# Altium schematic symbol library SCH Library.SCHLIB: 489 symbols (part 1 of 2)
Pins are listed as number, name and electrical type; pins without a type are passive.

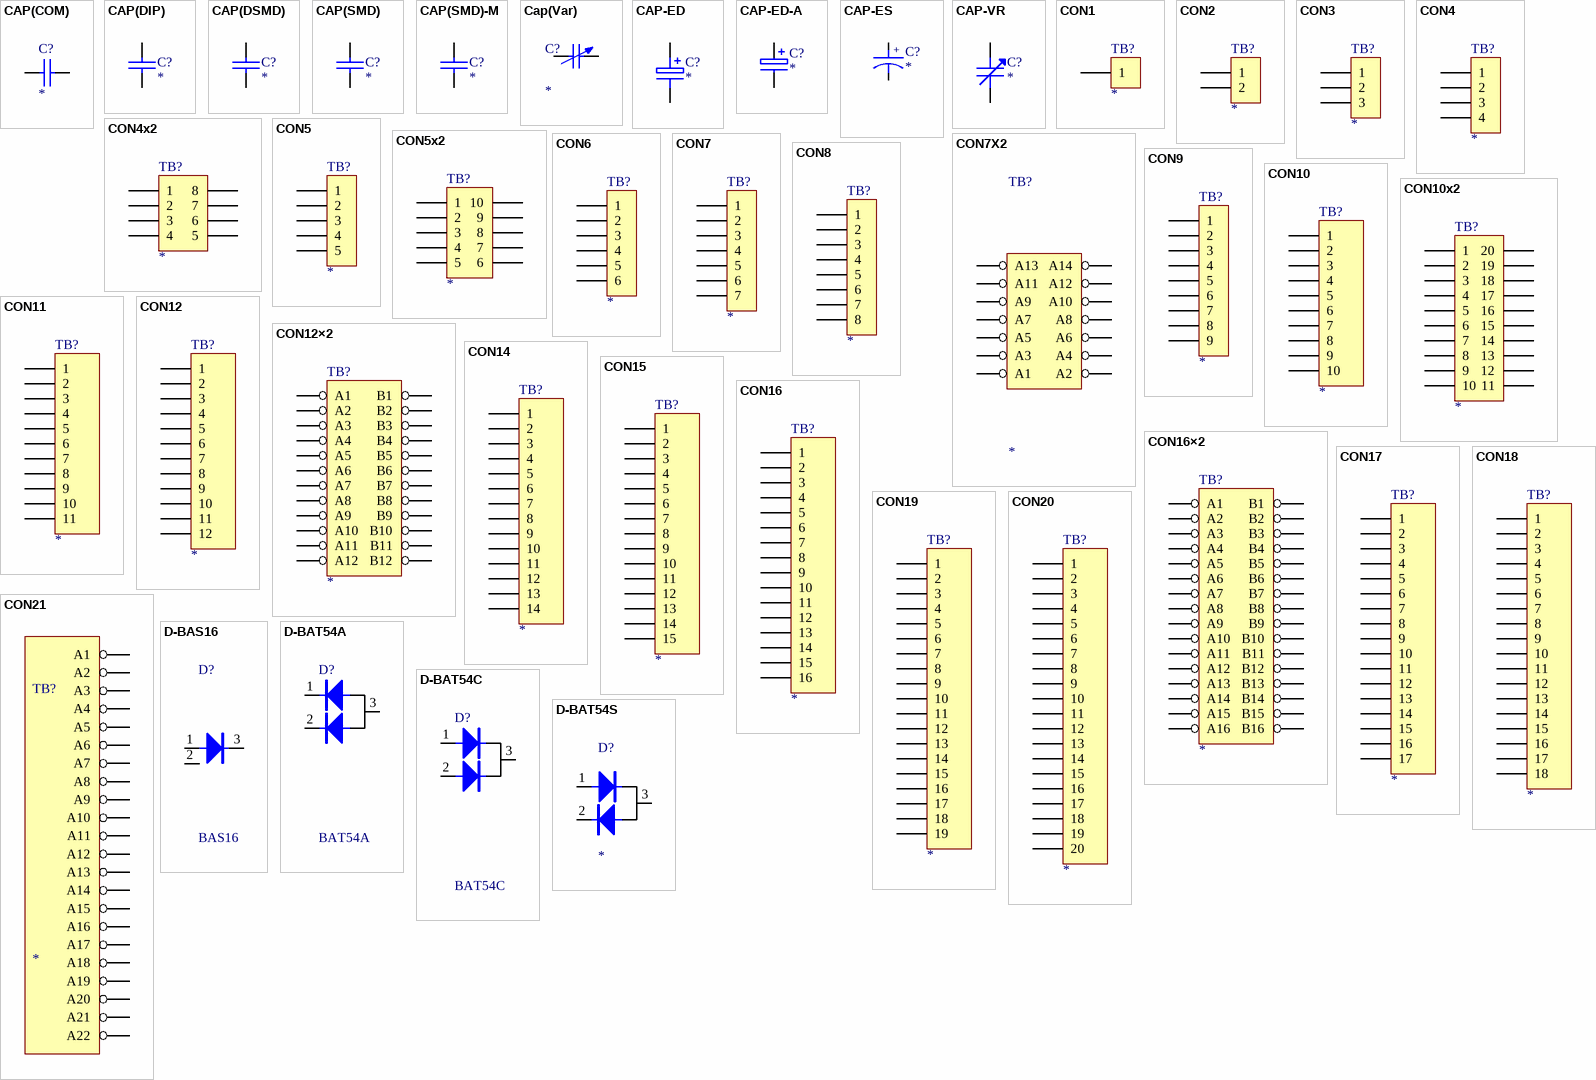
[diagram p0: symbols CAP(COM) to D-BAT54S]

## CAP(COM)
designator C?
普通电容
pins: 1, 2

## CAP(DIP)
designator C?
直插电容
footprint Model Name (Footprint not found)
pins: 1, 2

## CAP(DSMD)
designator C?
贴片钽电容
footprint C-3216-18-A
footprint C-3528-21-B
footprint C-6032-28-C
footprint C-7343-31-D
footprint C-7343-43-E
footprint C-7361-38-V
pins: 1, 2

## CAP(SMD)
designator C?
贴片电容
footprint C-0805
footprint C-1206
footprint C-1808
footprint C-1812
footprint C-2220
footprint C-0603
footprint C-0402
pins: 1, 2

## CAP(SMD)-M
designator C?
贴片电容
footprint C-0805
footprint C-1206
footprint C-1808
footprint C-1812
footprint C-2220
footprint C-0603
footprint C-0402
footprint C-1210
pins: 1, 2

## Cap(Var)
designator C?
可变电容器; Published: 24-Mar-1999; LatestRevisionDate: 17-Jul-2002; LatestRevisionNote: Re-released for DXP Platform.; PackageReference: C1210; Publisher: Altium Limited
footprint C1210 (Chip Capacitor; Body 3.2 x 2.5 mm (LxW typ))
signal-integrity model Cap Var
pins: 1, 2

## CAP-ED
designator C?
电解电容
pins: 1, 2

## CAP-ED-A
designator C?
电解电容
pins: 1, 2

## CAP-ES
designator C?
电解电容
pins: 1, 2
text: +

## CAP-VR
designator C?
可调电容
pins: 1, 2

## CON1
designator TB?
连接器
pins: 1

## CON2
designator TB?
连接器
pins: 1, 2

## CON3
designator TB?
连接器
pins: 1, 2, 3

## CON4
designator TB?
连接器
pins: 1, 2, 3, 4

## CON4x2
designator TB?
连接器
pins: 1, 2, 3, 4, 5, 6, 7, 8

## CON5
designator TB?
连接器
pins: 1, 2, 3, 4, 5

## CON5x2
designator TB?
连接器
pins: 1, 2, 3, 4, 5, 6, 7, 8, 9, 10

## CON6
designator TB?
连接器
pins: 1, 2, 3, 4, 5, 6

## CON7
designator TB?
连接器
pins: 1, 2, 3, 4, 5, 6, 7

## CON7X2
designator TB?
连接器
pins: A1, A2, A3, A4, A5, A6, A7, A8, A9, A10, A11, A12, A13, A14

## CON8
designator TB?
连接器
pins: 1, 2, 3, 4, 5, 6, 7, 8

## CON9
designator TB?
连接器
pins: 1, 2, 3, 4, 5, 6, 7, 8, 9

## CON10
designator TB?
连接器
pins: 1, 2, 3, 4, 5, 6, 7, 8, 9, 10

## CON10x2
designator TB?
连接器
pins: 1, 2, 3, 4, 5, 6, 7, 8, 9, 10, 11, 12, 13, 14, 15, 16, 17, 18, 19, 20

## CON11
designator TB?
连接器
pins: 1, 2, 3, 4, 5, 6, 7, 8, 9, 10, 11

## CON12
designator TB?
连接器
pins: 1, 2, 3, 4, 5, 6, 7, 8, 9, 10, 11, 12

## CON12×2
designator TB?
连接器
pins: A1, A2, A3, A4, A5, A6, A7, A8, A9, A10, A11, A12, B1, B2, B3, B4, B5, B6, B7, B8, B9, B10, B11, B12

## CON14
designator TB?
连接器
pins: 1, 2, 3, 4, 5, 6, 7, 8, 9, 10, 11, 12, 13, 14

## CON15
designator TB?
连接器
pins: 1, 2, 3, 4, 5, 6, 7, 8, 9, 10, 11, 12, 13, 14, 15

## CON16
designator TB?
连接器
pins: 1, 2, 3, 4, 5, 6, 7, 8, 9, 10, 11, 12, 13, 14, 15, 16

## CON16×2
designator TB?
连接器
pins: A1, A2, A3, A4, A5, A6, A7, A8, A9, A10, A11, A12, A13, A14, A15, A16, B1, B2, B3, B4, B5, B6, B7, B8, B9, B10, B11, B12, B13, B14, B15, B16

## CON17
designator TB?
连接器
pins: 1, 2, 3, 4, 5, 6, 7, 8, 9, 10, 11, 12, 13, 14, 15, 16, 17

## CON18
designator TB?
连接器
pins: 1, 2, 3, 4, 5, 6, 7, 8, 9, 10, 11, 12, 13, 14, 15, 16, 17, 18

## CON19
designator TB?
连接器
pins: 1, 2, 3, 4, 5, 6, 7, 8, 9, 10, 11, 12, 13, 14, 15, 16, 17, 18, 19

## CON20
designator TB?
连接器
pins: 1, 2, 3, 4, 5, 6, 7, 8, 9, 10, 11, 12, 13, 14, 15, 16, 17, 18, 19, 20

## CON21
designator TB?
连接器
pins: A1, A2, A3, A4, A5, A6, A7, A8, A9, A10, A11, A12, A13, A14, A15, A16, A17, A18, A19, A20, A21, A22

## D-BAS16
designator D?, comment BAS16
开关二极管
footprint Q-TO-220AB
footprint IC-SOT-23
pins: 1, 2, 3

## D-BAT54A
designator D?, comment BAT54A
开关二极管
footprint Q-TO-220AB
footprint IC-SOT-23 123
footprint IC-SOT-23 123
pins: 1, 2, 3

## D-BAT54C
designator D?, comment BAT54C
开关二极管
footprint Q-TO-220AB
footprint IC-SOT-23 123
footprint IC-SOT-23 123
pins: 1, 2, 3

## D-BAT54S
designator D?
肖特基二极管
footprint Q-TO-220AB
footprint IC-SOT-23 123
pins: 1, 2, 3

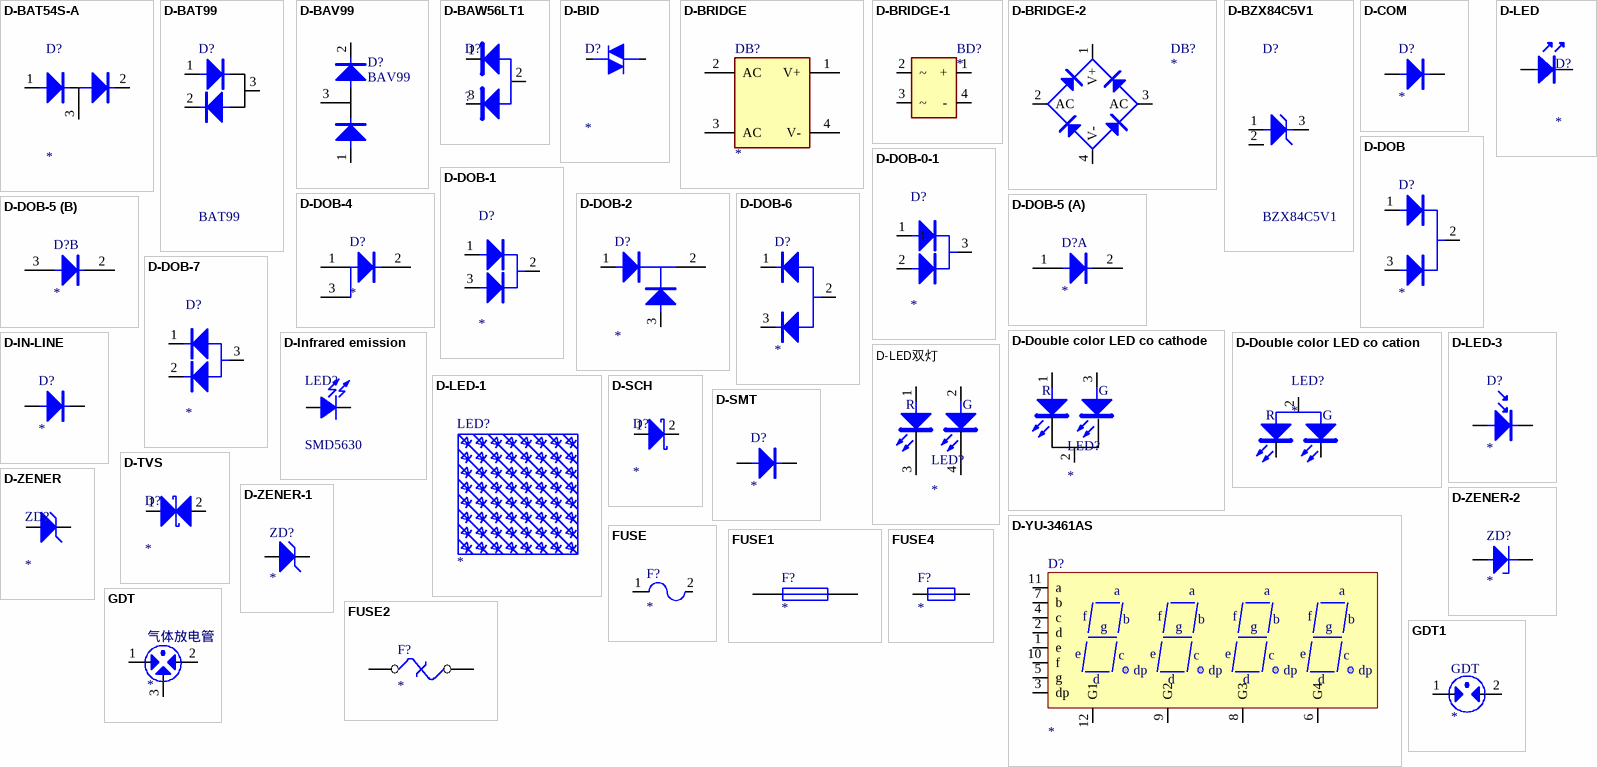
[diagram p1: symbols D-BAT54S-A to GDT1]

## D-BAT54S-A
designator D?
肖特基二极管
footprint Q-TO-220AB
footprint IC-SOT-23 123
pins: 1, 2, 3

## D-BAT99
designator D?, comment BAT99
开关二极管
footprint Q-TO-220AB
footprint IC-SOT-23 123
footprint IC-SOT-23 123
pins: 1, 2, 3

## D-BAV99
designator D?, comment BAV99
开关二极管
pins: 1 A, 2 K, 3

## D-BAW56LT1
designator D?, comment ?
开关二极管; Price: 0.082
footprint SOT23 (SOT-23; 3 Leads; Body 3.1 x 2.5 mm, inc. leads (LxW max), Alternate Lead Configuration)
footprint SOT23-W (SOT-23; 3 Leads; Body 3.1 x 2.5 mm, inc. leads (LxW max), Alternate Lead Configuration)
pins: 1, 2 A, 3 A

## D-BID
designator D?
双向二极管; Note: Pin 2 is electrically connected to Pin 4 (TAB); Published: 29-Sep-2000; LatestRevisionDate: 17-Jul-2002; LatestRevisionNote: Re-released for DXP Platform.; DatasheetDocument: 1999; PackageReference: 369-03; Publisher: Altium Limited; Code_JEDEC: TO-251-AA; ComponentLink1Description: Manufacturer Link; ComponentLink1URL: http://www.motorola.com/
simulation model MAC15A8 (Spice Subcircuit)
footprint Model Name (Footprint not found)
footprint DO15-L (超快恢复二极管 SR2A0)
footprint DO15-W (SR2A0卧式插件)
pins: 1 M1, 2 M2

## D-BRIDGE
designator DB?
整流桥
footprint DB-DF107G
footprint DB-GBL
footprint DB-GBPC20/30A (圆脚)
footprint DB-GBU
footprint DB-KBL410
footprint DB-KBP2 (RS-2 ,2A)
footprint DB-KBU808
footprint DB-KBU808OS
footprint DB-S-MB6S (MD-S/0.6A)
pins: 1 V+, 2 AC, 3 AC, 4 V-

## D-BRIDGE-1
designator BD?
整流桥
pins: 1 +, 2 ~, 3 ~, 4 -

## D-BRIDGE-2
designator DB?
整流桥
footprint DB-DF107G
footprint DB-GBL
footprint DB-GBPC20/30A (圆脚)
footprint DB-GBU
footprint DB-KBL410
footprint DB-KBP2 (RS-2 ,2A)
footprint DB-KBU808
footprint DB-KBU808OS
footprint DB-S-MB6S (MD-S/0.6A)
pins: 1 V+, 2 AC, 3 AC, 4 V-

## D-BZX84C5V1
designator D?, comment BZX84C5V1
稳压二极管
footprint IC-SOT-23 123
pins: 1, 2, 3

## D-COM
designator D?
普通二极管
pins: A, K

## D-DOB
designator D?
双PN结123
footprint Q-TO-220AB
footprint Q-TO-247
pins: 1, 2, 3

## D-DOB-0-1
designator D?
双PN结132
footprint Q-TO-220AB
footprint Q-TO-247
pins: 1, 2, 3

## D-DOB-1
designator D?
双PN结123
footprint Q-TO-220AB
footprint Q-TO-247
pins: 1, 2, 3

## D-DOB-2
designator D?
双PN结
footprint Q-TO-220AB
pins: 1, 2, 3

## D-DOB-4
designator D?
双PN结
footprint Q-TO-220AB
pins: 1, 2, 3

## D-DOB-5
designator D?
双PN结
footprint Q-TO-220AB
footprint Q-TO-247/220
part A pins: 1, 2
part B pins: 2, 3

## D-DOB-6
designator D?
双PN结
footprint Q-TO-220AB
footprint Q-TO-247
pins: 1, 2, 3

## D-DOB-7
designator D?
双PN结123
footprint Q-TO-220AB
footprint Q-TO-247
pins: 1, 2, 3

## D-Double color LED co cathode
designator LED?
双色LED共阴
footprint LED-2
footprint LED-3
pins: 1, 2 A, 3 A
text: R; G

## D-Double color LED co cation
designator LED?
双色LED共阳
footprint LED-2
footprint LED-3
pins: 1, 2 A, 3 A
text: R; G

## D-IN-LINE
designator D?
直插二极管
footprint D0.5A-6 (1N4148)
footprint D0.5L-3 (1N4148)
footprint D1A-9 (DO-41)
footprint D1L-4
footprint D2A-10
footprint D2L-5
footprint D3A-15
footprint D3L-5.5
footprint D5A-21 ((DO-201AE))
pins: A, K

## D-Infrared emission
designator LED?, comment SMD5630
红外发射二极管; Published: 8-Jun-2000; LatestRevisionDate: 17-Jul-2002; LatestRevisionNote: Re-released for DXP Platform.; PackageDocument: Feb-2002; PackageReference: 3.2X1.6X1.1; Publisher: Altium Limited
simulation model LED2 (Diode)
footprint LED
footprint Model Name (Footprint not found)
footprint 光敏管
pins: 1 A, 2 K

## D-LED
designator D?
发光二极管
footprint D-1206
footprint D-LED2P-D5-圆
pins: A 1, K 2

## D-LED-1
designator LED?
LED阵列

## D-LED-3
designator D?
光敏二极管
pins: 1, 2

## D-LED双灯
designator LED?
双色LED
footprint LED-DIP-红绿双色
pins: 1, 2, 3, 4
text: R; G

## D-SCH
designator D?
肖特基二极管; Published: 8-Jun-2000; LatestRevisionDate: 17-Jul-2002; LatestRevisionNote: Re-released for DXP Platform.; PackageReference: SMB; Publisher: Altium Limited; Code_JEDEC: DO-214-AA; Value: *
footprint DO15-L (超快恢复二极管 SR2A0)
footprint DO15-W (SR2A0卧式插件)
footprint DO41-L (1N4007 立式插件)
footprint DO41-W (1N4007卧式插件)
footprint DO201AD-L (快速恢复二极管)
footprint DO201AD-W (快速恢复二极管)
footprint DO-214AC(SMA) (US2A;US2B;US2D;US2M)
pins: 1 A, 2 K

## D-SMT
designator D?
贴片二极管
footprint D-SMA ((DO-214AC))
footprint D-SMB
footprint D-SMC
footprint D-SOD-123
footprint D-SOD-323
pins: A, K

## D-TVS
designator D?
TVS二极管; Published: 8-Jun-2000; LatestRevisionDate: 17-Jul-2002; LatestRevisionNote: Re-released for DXP Platform.; PackageReference: SMB; Publisher: Altium Limited; Code_JEDEC: DO-214-AA; Value: *
footprint DO-201AD 19.863 (DO-201AD, Diode, Axial; Lead Spacing 20.32mm, Lead Dia. 1.3mm, Body Length 9.5mm, Body Dia. 5.6mm)
pins: 1 A, 2 K

## D-YU-3461AS
designator D?
共阴数码管
pins: 1 e, 2 d, 3 dp, 4 c, 5 g, 6 G4, 7 b, 8 G3, 9 G2, 10 f, 11 a, 12 G1

## D-ZENER
designator ZD?
稳压二极管; Published: 8-Jun-2000; LatestRevisionDate: 17-Jul-2002; LatestRevisionNote: Re-released for DXP Platform.; PackageReference: DIODE-0.7; Publisher: Altium Limited
footprint MLL34 (SMD稳压二极管 玻璃封装)
footprint DO41-L (1N4007 立式插件)
pins: 1 A, 2 K

## D-ZENER-1
designator ZD?
稳压二极管
footprint D0.5A-6 (1N4148)
footprint D1A-9 (DO-41)
footprint D-1206
footprint D1L-4
pins: A 1, K 2

## D-ZENER-2
designator ZD?
稳压二极管
pins: A 1, K 2

## FUSE
designator F?
保险丝
footprint FUSE P5方形
footprint Model Name (Footprint not found)
pins: 1, 2

## FUSE1
designator F?
保险管
pins: 1, 2

## FUSE2
designator F?
温度保险管
pins: 1, 2

## FUSE4
designator F?
保险管
pins: 1, 2

## GDT
designator 气体放电管
气体放电管3脚
footprint GD防雷管-3P (6*8mm)
pins: 1, 2, 3

## GDT1
designator GDT
气体放电管2脚
footprint GD防雷管-2P (6*8mm)
pins: 1, 2

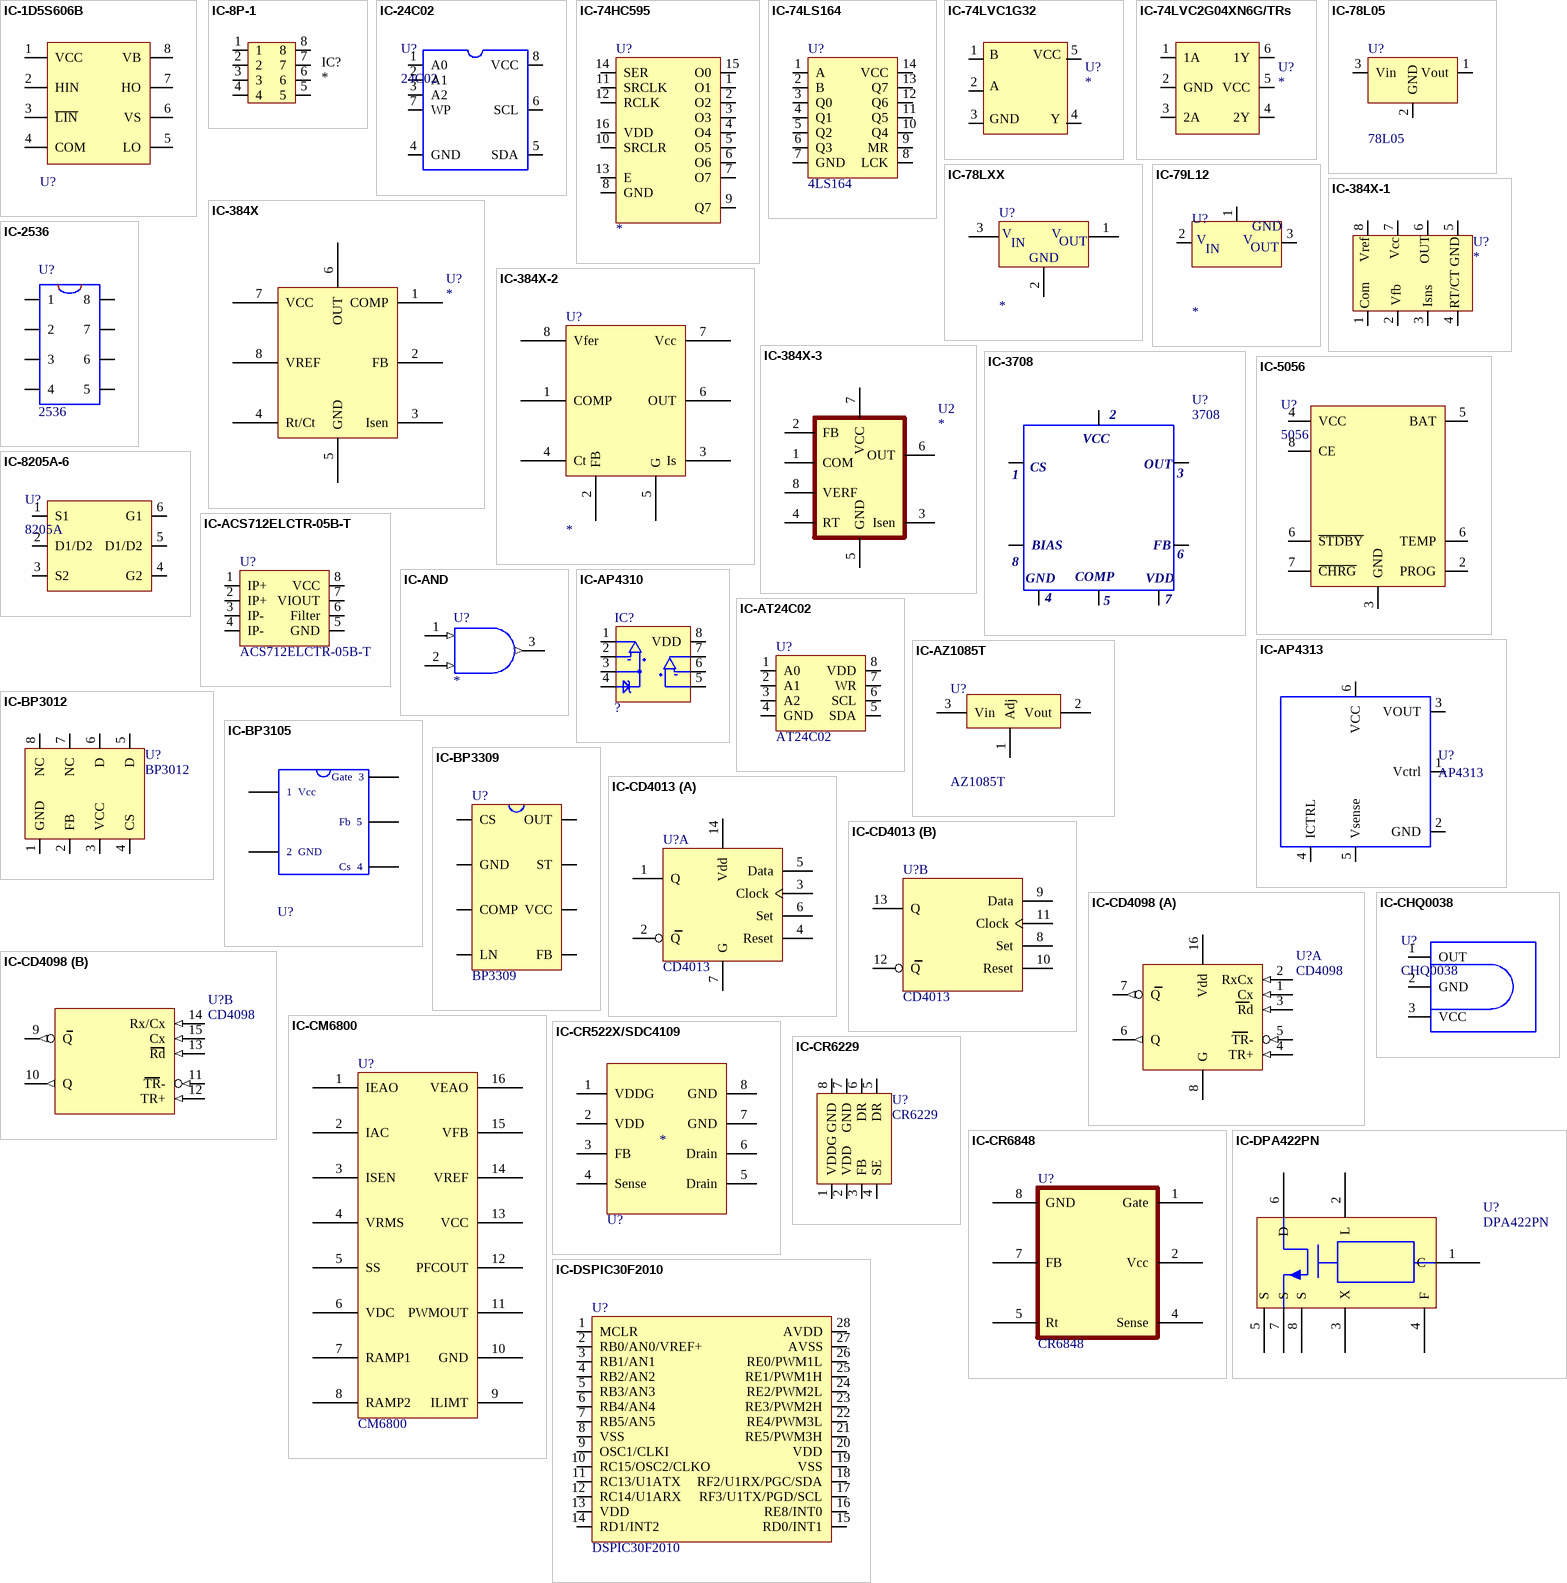
[diagram p2: symbols IC-1D5S606B to IC-DSPIC30F2010]

## IC-1D5S606B
designator U?, comment 1D5S606B  (value not drawn)
驱动芯片
pins: 1 VCC, 2 HIN, 3 ~{LIN}, 4 COM, 5 LO, 6 VS, 7 HO, 8 VB

## IC-8P-1
designator IC?
贴片芯片
footprint IC-SO-8-1
footprint IC-SO-8-1
pins: 1 (power), 2, 3 (power), 4, 5, 6 (power), 7, 8 (power)

## IC-24C02
designator U?, comment 24C02
储存器芯片
footprint SOP-8
footprint SO8-150 (Small Outline; 8Leads; Body Width 3.9 mm; Pitch 1.27 mm)
pins: 1 A0, 2 A1, 3 A2, 4 GND, 5 SDA, 6 SCL, 7 WP, 8 VCC

## IC-74HC595
designator U?
串行寄存器
pins: 1 O1, 2 O2, 3 O3, 4 O4, 5 O5, 6 O6, 7 O7, 8 GND, 9 Q7, 10 SRCLR, 11 SRCLK, 12 RCLK, 13 E, 14 SER, 15 O0, 16 VDD

## IC-74LS164
designator U?, comment 4LS164
移位寄存器
pins: 1 A, 2 B, 3 Q0, 4 Q1, 5 Q2, 6 Q3, 7 GND, 8 LCK, 9 MR, 10 Q4, 11 Q5, 12 Q6, 13 Q7, 14 VCC

## IC-74LVC1G32
designator U?
74LVC1G32丝印R57LF
footprint SOT-353
pins: 1 B, 2 A, 3 GND, 4 Y, 5 VCC
2 alternate drawings of the same symbol

## IC-74LVC2G04XN6G/TRs
designator U?
反向器
footprint SOT23-6
pins: 1 1A, 2 GND, 3 2A, 4 2Y, 5 VCC, 6 1Y
2 alternate drawings of the same symbol

## IC-78L05
designator U?, comment 78L05
三端稳压管
pins: 1 Vout, 2 GND, 3 Vin

## IC-78LXX
designator U?
三端稳压管
footprint to-126
footprint IC-SOT-89
pins: 1 VOUT, 2 GND, 3 VIN
2 alternate drawings of the same symbol
text: V; IN; OUT

## IC-79L12
designator U?
三端稳压管
footprint IC-SOT-89
pins: 1 GND, 2 IN, 3 10
2 alternate drawings of the same symbol
text: V; OUT

## IC-384X
designator U?
电源管理芯片
footprint IC-DIP8
footprint IC-SO-8
pins: 1 COMP, 2 FB, 3 Isen, 4 Rt/Ct, 5 GND, 6 OUT, 7 VCC, 8 VREF

## IC-384X-1
designator U?
电源管理芯片
footprint IC-DIP8
footprint IC-SO-8
pins: 1, 2, 3, 4, 5, 6, 7, 8
2 alternate drawings of the same symbol
text: Vcc; Vref; OUT; GND; Vfb; Com; Isns; RT/CT

## IC-384X-2
designator U?
电源管理芯片
footprint IC-DIP8
footprint IC-SO-8
pins: 1 COMP, 2 FB, 3 Is, 4 Ct, 5 G, 6 OUT, 7 Vcc, 8 Vfer

## IC-384X-3
designator U2
电源管理芯片
footprint IC-DIP8
footprint IC-SO-8
pins: 1 COM, 2 FB, 3 Isen, 4 RT, 5 GND, 6 OUT, 7 VCC, 8 VERF

## IC-2536
designator U?, comment 2536
电源管理芯片
pins: 1, 2, 3, 4, 5, 6, 7, 8

## IC-3708
designator U?, comment 3708
栅极驱动器
pins: 1, 2, 3, 4, 5, 6, 7, 8
text: VCC; OUT; CS; BIAS; FB; COMP; GND; VDD

## IC-5056
designator U?, comment 5056
电池充电管理芯片
footprint SOP8 - 220
pins: 2 PROG, 3 GND, 4 VCC, 5 BAT, 6 ~{STDBY}, 6 TEMP, 7 ~{CHRG}, 8 CE

## IC-8205A-6
designator U?, comment 8205A
锂电池保护芯片
footprint SOT23-6 (SOT-23/SC-74A; 5 Leads; Body 3.1 x 3 mm, inc. leads (LxW max))
pins: 1 S1, 2 D1/D2, 3 S2, 4 G2, 5 D1/D2, 6 G1

## IC-ACS712ELCTR-05B-T
designator U?, comment ACS712ELCTR-05B-T
电流传感器电压隔离芯片
pins: 1 IP+, 2 IP+, 3 IP-, 4 IP-, 5 GND, 6 Filter, 7 VIOUT, 8 VCC

## IC-AND
designator U?
与门
pins: 1 A (in), 2 B (in), 3 Y (out)

## IC-AP4310
designator IC?, comment ?
运放
pins: 1, 2, 3, 4, 5, 6, 7, 8 VDD

## IC-AP4313
designator U?, comment AP4313
恒压恒流控制芯片
footprint SOT23-6 (SOT-23/SC-74A; 5 Leads; Body 3.1 x 3 mm, inc. leads (LxW max))
pins: 1 Vctrl, 2 GND, 3 VOUT, 4 ICTRL, 5 Vsense, 6 VCC

## IC-AT24C02
designator U?, comment AT24C02
储存器
pins: 1 A0, 2 A1, 3 A2, 4 GND, 5 SDA, 6 SCL, 7 WR, 8 VDD

## IC-AZ1085T
designator U?, comment AZ1085T
可调稳压管
footprint Q-To-220AB
pins: 1 Adj, 2 Vout, 3 Vin

## IC-BP3012
designator U?, comment BP3012
电源管理芯片
footprint So-8
footprint IC-SO-8
footprint IC-DIP8
pins: 1 GND, 2 FB, 3 VCC, 4 CS, 5 D, 6 D, 7 NC, 8 NC

## IC-BP3105
designator U?, comment BP3105  (value not drawn)
电源管理芯片
footprint IC-SOT-23-5
pins: 1, 2, 3, 4, 5
2 alternate drawings of the same symbol
text: Gate  3; 1  Vcc; Fb  5; 2  GND; Cs  4

## IC-BP3309
designator U?, comment BP3309
电源管理芯片
footprint IC-SO-8
pins: 1 CS, 2 GND, 3 COMP, 4 LN, 5 FB, 6 VCC, 7 ST, 8 OUT

## IC-CD4013
designator U?, comment CD4013
双路D类触发器
footprint IC-so-14
footprint IC-DIP14
part A pins: 1 Q, 2 Q, 3 Clock, 4 Reset, 5 Data, 6 Set, 7 G (power), 14 Vdd (power)
part B pins: 8 Set, 9 Data, 10 Reset, 11 Clock, 12 Q, 13 Q
2 alternate drawings of the same symbol

## IC-CD4098
designator U?, comment CD4098
单稳态多谐振荡器
footprint IC-so-16
footprint DIP16
footprint so-16
part A pins: 1 Cx (in), 2 RxCx (in), 3 Rd (in), 4 TR+ (in), 5 TR- (in), 6 Q (out), 7 Q (out), 8 G (power), 16 Vdd (power)
part B pins: 8 VSS (power) hidden to VSS, 9 Q (out), 10 Q (out), 11 TR- (in), 12 TR+ (in), 13 Rd (in), 14 Rx/Cx (in), 15 Cx (in)
2 alternate drawings of the same symbol

## IC-CHQ0038
designator U?, comment CHQ0038
红外线接收器
footprint CON3P-2.54MM
footprint RPM6938
pins: 1 OUT, 2 GND, 3 VCC

## IC-CM6800
designator U?, comment CM6800
电源管理芯片
footprint IC-DIP16
pins: 1 IEAO, 2 IAC, 3 ISEN, 4 VRMS, 5 SS, 6 VDC, 7 RAMP1, 8 RAMP2, 9 ILIMT, 10 GND, 11 PWMOUT, 12 PFCOUT, 13 VCC, 14 VREF, 15 VFB, 16 VEAO

## IC-CR522X/SDC4109
designator U?
集成MOS 5224_630V,5228_650V; VCC: 12－23V ON：14.8V; 过欠压: UV_9V/OV_28.5V; 频率: 固定50K; 过温保护: 150度; 功率: 5224_12W/5228_18W/5229_20W/DIP8
footprint IC-SO-8
footprint IC-DIP8
pins: 1 VDDG, 2 VDD, 3 FB, 4 Sense, 5 Drain, 6 Drain, 7 GND, 8 GND

## IC-CR6229
designator U?, comment CR6229
电源管理芯片
pins: 1 VDDG, 2 VDD, 3 FB, 4 SE, 5 DR, 6 DR, 7 GND, 8 GND

## IC-CR6848
designator U?, comment CR6848
电源管理芯片
footprint IC-DIP8
pins: 1 Gate, 2 Vcc, 4 Sense, 5 Rt, 7 FB, 8 GND

## IC-DPA422PN
designator U?, comment DPA422PN
电源管理芯片
footprint IC-TOP22X
pins: 1 C, 2 L, 3 X, 4 F, 5 S, 6 D, 7 S, 8 S

## IC-DSPIC30F2010
designator U?, comment DSPIC30F2010
单片机
pins: 1 MCLR, 2 RB0/AN0/VREF+, 3 RB1/AN1, 4 RB2/AN2, 5 RB3/AN3, 6 RB4/AN4, 7 RB5/AN5, 8 VSS, 9 OSC1/CLKI, 10 RC15/OSC2/CLKO, 11 RC13/U1ATX, 12 RC14/U1ARX, 13 VDD, 14 RD1/INT2, 15 RD0/INT1, 16 RE8/INT0, 17 RF3/U1TX/PGD/SCL, 18 RF2/U1RX/PGC/SDA, 19 VSS, 20 VDD, 21 RE5/PWM3H, 22 RE4/PWM3L, 23 RE3/PWM2H, 24 RE2/PWM2L, 25 RE1/PWM1H, 26 RE0/PWM1L, 27 AVSS, 28 AVDD

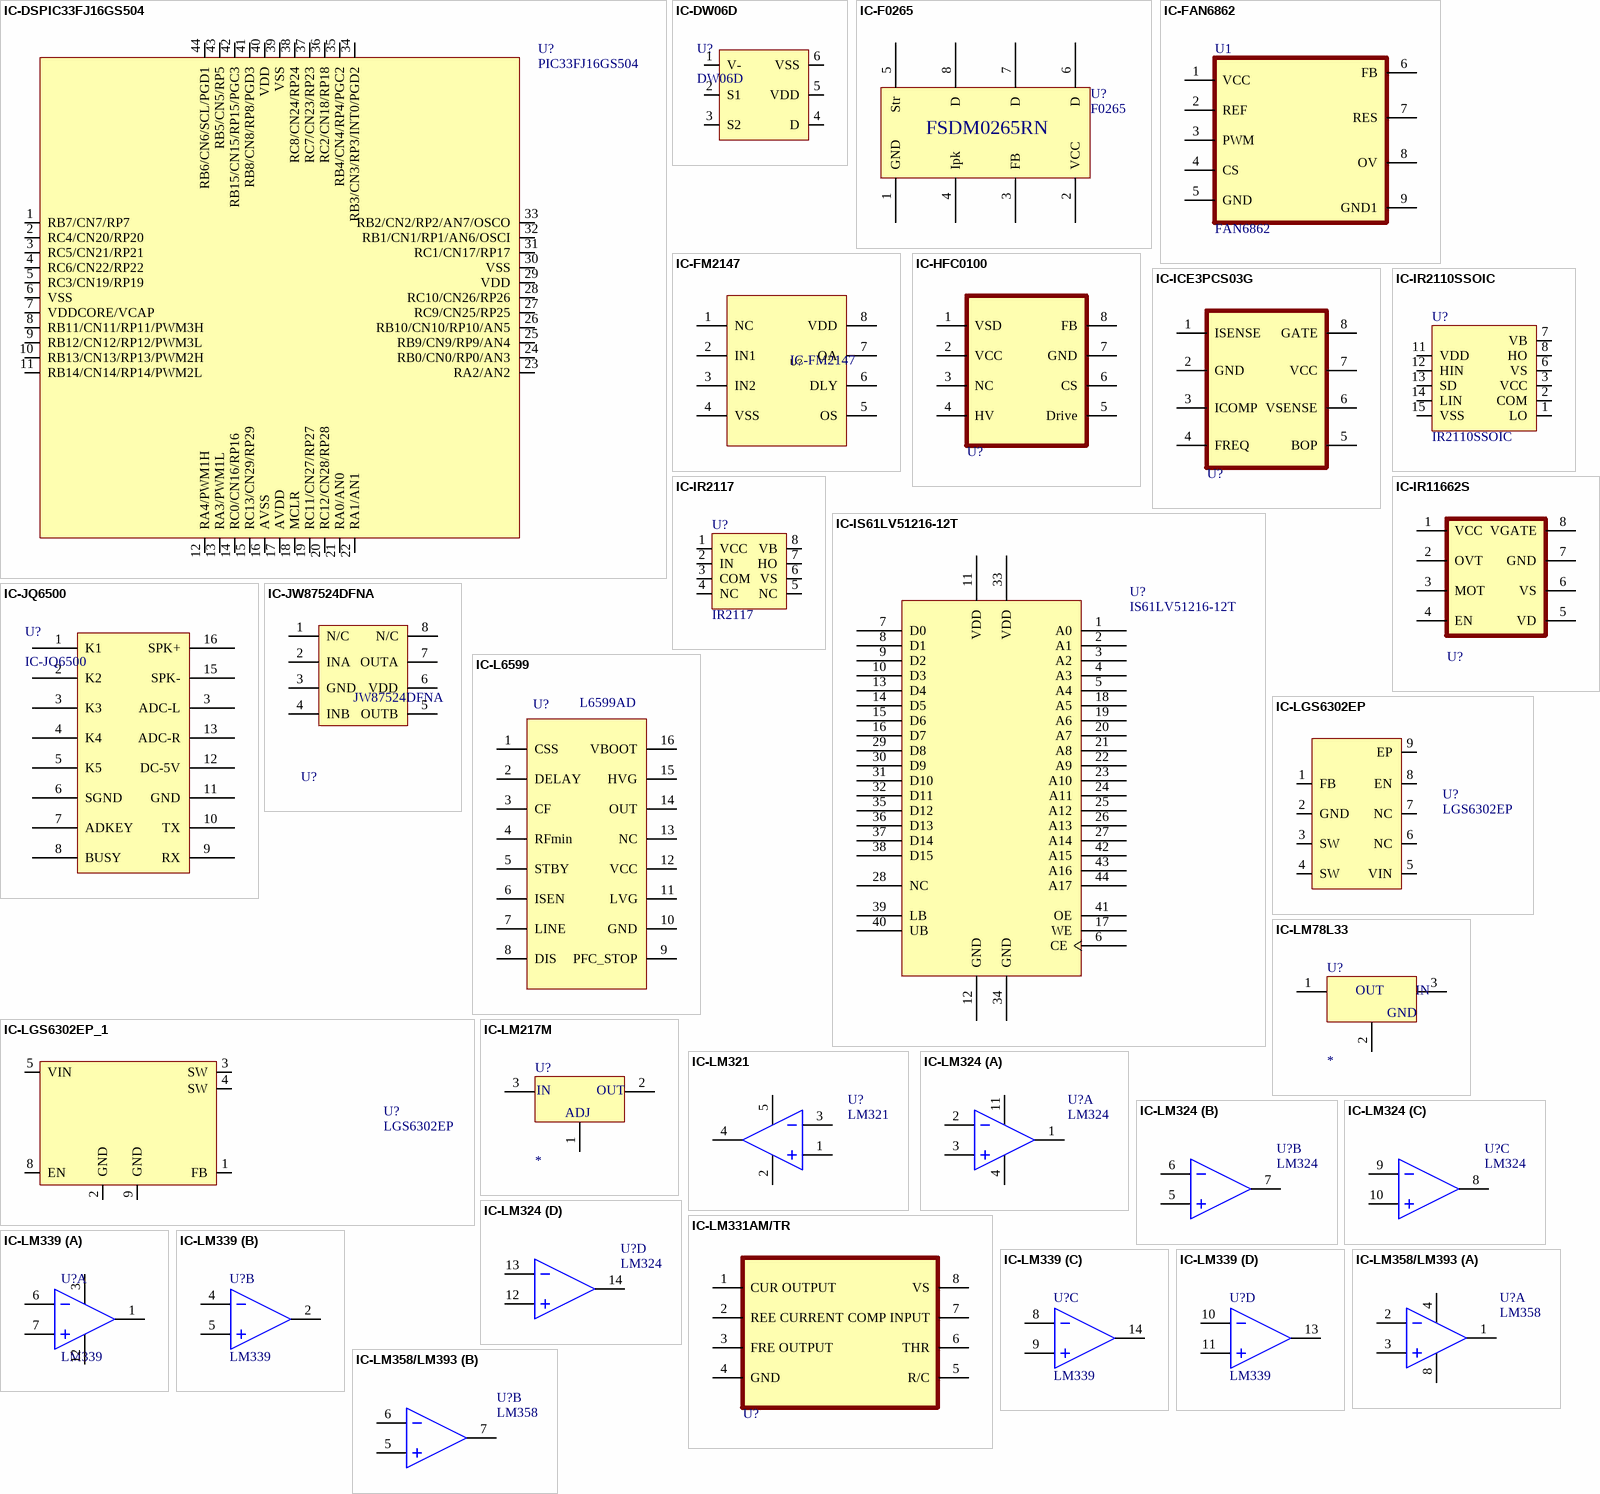
[diagram p3: symbols IC-DSPIC33FJ16GS504 to IC-LM358/LM393]

## IC-DSPIC33FJ16GS504
designator U?, comment PIC33FJ16GS504
单片机
pins: 1 RB7/CN7/RP7, 2 RC4/CN20/RP20, 3 RC5/CN21/RP21, 4 RC6/CN22/RP22, 5 RC3/CN19/RP19, 6 VSS, 7 VDDCORE/VCAP, 8 RB11/CN11/RP11/PWM3H, 9 RB12/CN12/RP12/PWM3L, 10 RB13/CN13/RP13/PWM2H, 11 RB14/CN14/RP14/PWM2L, 12 RA4/PWM1H, 13 RA3/PWM1L, 14 RC0/CN16/RP16, 15 RC13/CN29/RP29, 16 AVSS, 17 AVDD, 18 MCLR, 19 RC11/CN27/RP27, 20 RC12/CN28/RP28, 21 RA0/AN0, 22 RA1/AN1, 23 RA2/AN2, 24 RB0/CN0/RP0/AN3, 25 RB9/CN9/RP9/AN4, 26 RB10/CN10/RP10/AN5, 27 RC9/CN25/RP25, 28 RC10/CN26/RP26, 29 VDD, 30 VSS, 31 RC1/CN17/RP17, 32 RB1/CN1/RP1/AN6/OSCI, 33 RB2/CN2/RP2/AN7/OSCO, 34 RB3/CN3/RP3/INT0/PGD2, 35 RB4/CN4/RP4/PGC2, 36 RC2/CN18/RP18, 37 RC7/CN23/RP23, 38 RC8/CN24/RP24, 39 VSS, 40 VDD, 41 RB8/CN8/RP8/PGD3, 42 RB15/CN15/RP15/PGC3, 43 RB5/CN5/RP5, 44 RB6/CN6/SCL/PGD1

## IC-DW06D
designator U?, comment DW06D
锂电充电保护
footprint SOT23-6 (SOT-23/SC-74A; 5 Leads; Body 3.1 x 3 mm, inc. leads (LxW max))
pins: 1 V-, 2 S1, 3 S2, 4 D, 5 VDD, 6 VSS

## IC-F0265
designator U?, comment F0265
电源管理芯片
footprint IC-DIP8
pins: 1 GND, 2 VCC, 3 FB, 4 Ipk, 5 Str, 6 D, 7 D, 8 D
text: FSDM0265RN

## IC-FAN6862
designator U1, comment FAN6862
电源管理芯片
footprint IC-MD-FAN6862 Driver V1 (20*30 65KHz)
pins: 1 VCC, 2 REF, 3 PWM, 4 CS, 5 GND, 6 FB, 7 RES, 8 OV, 9 GND1

## IC-FM2147
designator U?
漏电保护芯片; Manufacturer: FM(复旦微); Name: FM2147-SO-T-G; Symbol: FM2147; Add into BOM: yes; Device: FM2147-SO-T-G; LCSC Part Name: FM2147-SO-T-G; Supplier Part: C194212; Manufacturer Part: FM2147-SO-T-G; Supplier Footprint: SOIC-8; JLCPCB Part Class: Extended Part; Datasheet: https://atta.szlcsc.com/upload/public/pdf/source/20180607/C194212_F0BEF3D37CE6190DF30A565AD6156220.pdf; Supplier: LCSC; Convert to PCB: yes
footprint IC-SOIC-8
pins: 1 NC, 2 IN1, 3 IN2, 4 VSS, 5 OS, 6 DLY, 7 OA, 8 VDD

## IC-HFC0100
designator U?, comment HFC0100  (value not drawn)
电源管理芯片
footprint IC-SO-8
pins: 1 VSD, 2 VCC, 3 NC, 4 HV, 5 Drive, 6 CS, 7 GND, 8 FB

## IC-ICE3PCS03G
designator U?, comment ICE3PCS03G  (value not drawn)
电源管理芯片; VCC: 9－28.5V ON：14.8V; 过欠压: UV_9V/OV_27.5V; 频率: 14-60Khz; 功率: 2538_20W/2536_16W
footprint IC-SO-8E
footprint IC-DIP8
pins: 1 ISENSE, 2 GND, 3 ICOMP, 4 FREQ, 5 BOP, 6 VSENSE, 7 VCC, 8 GATE

## IC-IR2110SSOIC
designator U?, comment IR2110SSOIC
电桥驱动器
pins: 1 LO, 2 COM, 3 VCC, 6 VS, 7 VB, 8 HO, 11 VDD, 12 HIN, 13 SD, 14 LIN, 15 VSS

## IC-IR2117
designator U?, comment IR2117
MOS驱动芯片
pins: 1 VCC, 2 IN, 3 COM, 4 NC, 5 NC, 6 VS, 7 HO, 8 VB

## IC-IR11662S
designator U?, comment IR11662S  (value not drawn)
电源管理芯片; VCC: 12－23V ON：14.8V; 过欠压: UV_9V/OV_28.5V; 频率: 固定50K; 过温保护: 150度; 功率: 5224_12W/5228_18W/5229_20W/DIP8
footprint IC-DIP8
footprint IC-SOP-8 (SOIC-8)
pins: 1 VCC, 2 OVT, 3 MOT, 4 EN, 5 VD, 6 VS, 7 GND, 8 VGATE

## IC-IS61LV51216-12T
designator U?, comment IS61LV51216-12T
存储器
pins: 1 A0, 2 A1, 3 A2, 4 A3, 5 A4, 6 CE, 7 D0, 8 D1, 9 D2, 10 D3, 11 VDD, 12 GND, 13 D4, 14 D5, 15 D6, 16 D7, 17 WE, 18 A5, 19 A6, 20 A7, 21 A8, 22 A9, 23 A10, 24 A11, 25 A12, 26 A13, 27 A14, 28 NC, 29 D8, 30 D9, 31 D10, 32 D11, 33 VDD, 34 GND, 35 D12, 36 D13, 37 D14, 38 D15, 39 LB, 40 UB, 41 OE, 42 A15, 43 A16, 44 A17

## IC-JQ6500
designator U?
语音IC
footprint SSOP24
pins: 1 K1, 2 K2, 3 K3, 3 ADC-L, 4 K4, 5 K5, 6 SGND, 7 ADKEY, 8 BUSY, 9 RX, 10 TX, 11 GND, 12 DC-5V, 13 ADC-R, 15 SPK-, 16 SPK+

## IC-JW87524DFNA
designator U?, comment JW87524DFNA
驱动芯片; VCC: 9－28.5V ON：14.8V; 过欠压: UV_9V/OV_27.5V; 频率: 14-60Khz; 功率: 2538_20W/2536_16W
footprint DFN-8
pins: 1 N/C, 2 INA, 3 GND, 4 INB, 5 OUTB, 6 VDD, 7 OUTA, 8 N/C

## IC-L6599
designator U?, comment L6599AD
电源管理芯片
footprint IC-SOP-16-M (SOIC-16)
footprint IC-SOP-16 TDK
pins: 1 CSS, 2 DELAY, 3 CF, 4 RFmin, 5 STBY, 6 ISEN, 7 LINE, 8 DIS, 9 PFC_STOP, 10 GND, 11 LVG, 12 VCC, 13 NC, 14 OUT, 15 HVG, 16 VBOOT

## IC-LGS6302EP
designator U?, comment LGS6302EP
电源管理芯片
footprint So-8
footprint IC-SO-8
footprint IC-DIP8
pins: 1 FB, 2 GND, 3 SW, 4 SW, 5 VIN, 6 NC, 7 NC, 8 EN, 9 EP

## IC-LGS6302EP_1
designator U?, comment LGS6302EP
电源管理芯片
footprint So-8
footprint IC-SO-8
footprint IC-DIP8
pins: 1 FB, 2 GND, 3 SW, 4 SW, 5 VIN, 8 EN, 9 GND

## IC-LM78L33
designator U?
线性稳压管
footprint IC-SOT-89 TDK
pins: 1 OUTPUT, 2 GND, 3 INPUT
2 alternate drawings of the same symbol
text: OUT; IN

## IC-LM217M
designator U?
线性稳压管
footprint IC-SOT-223 TDK
pins: 1 ADJ, 2 OUTPUT, 3 INPUT
2 alternate drawings of the same symbol
text: IN; OUT

## IC-LM321
designator U?, comment LM321
运放
footprint IC-SOT-23-5 TDK
pins: 1 IN+, 2 V+, 3 IN-, 4 OUTPUT, 5 V+

## IC-LM324
designator U?, comment LM324
运放
footprint IC-SO-14
footprint IC-DIP14
part A pins: 1 OUT, 2 IN-, 3 IN+, 4 V+, 11 V-
part B pins: 5 IN+, 6 IN-, 7 OUT
part C pins: 8 OUT, 9 IN-, 10 IN+
part D pins: 12 IN+, 13 IN-, 14 OUT

## IC-LM331AM/TR
designator U?, comment LM331AM/TR  (value not drawn)
模数转换芯片
footprint SOP-8 (封装库来自淘宝卖家 ID：黄晶宝石)
pins: 1 CUR OUTPUT, 2 REE CURRENT, 3 FRE OUTPUT, 4 GND, 5 R/C, 6 THR, 7 COMP INPUT, 8 VS

## IC-LM339
designator U?, comment LM339
运放
footprint IC-SO-14
footprint IC-DIP14
part A pins: 1 OUT, 3 V+, 6 IN-, 7 IN+, 12 V-
part B pins: 2 OUT, 4 IN-, 5 IN+
part C pins: 8 IN-, 9 IN+, 14 OUT
part D pins: 10 IN-, 11 IN+, 13 OUT

## IC-LM358/LM393
designator U?, comment LM358
运放
footprint IC-DIP8
footprint IC-SO-8
part A pins: 1 OUT, 2 IN-, 3 IN+, 4 V-, 8 V+
part B pins: 5 IN+, 6 IN-, 7 OUT

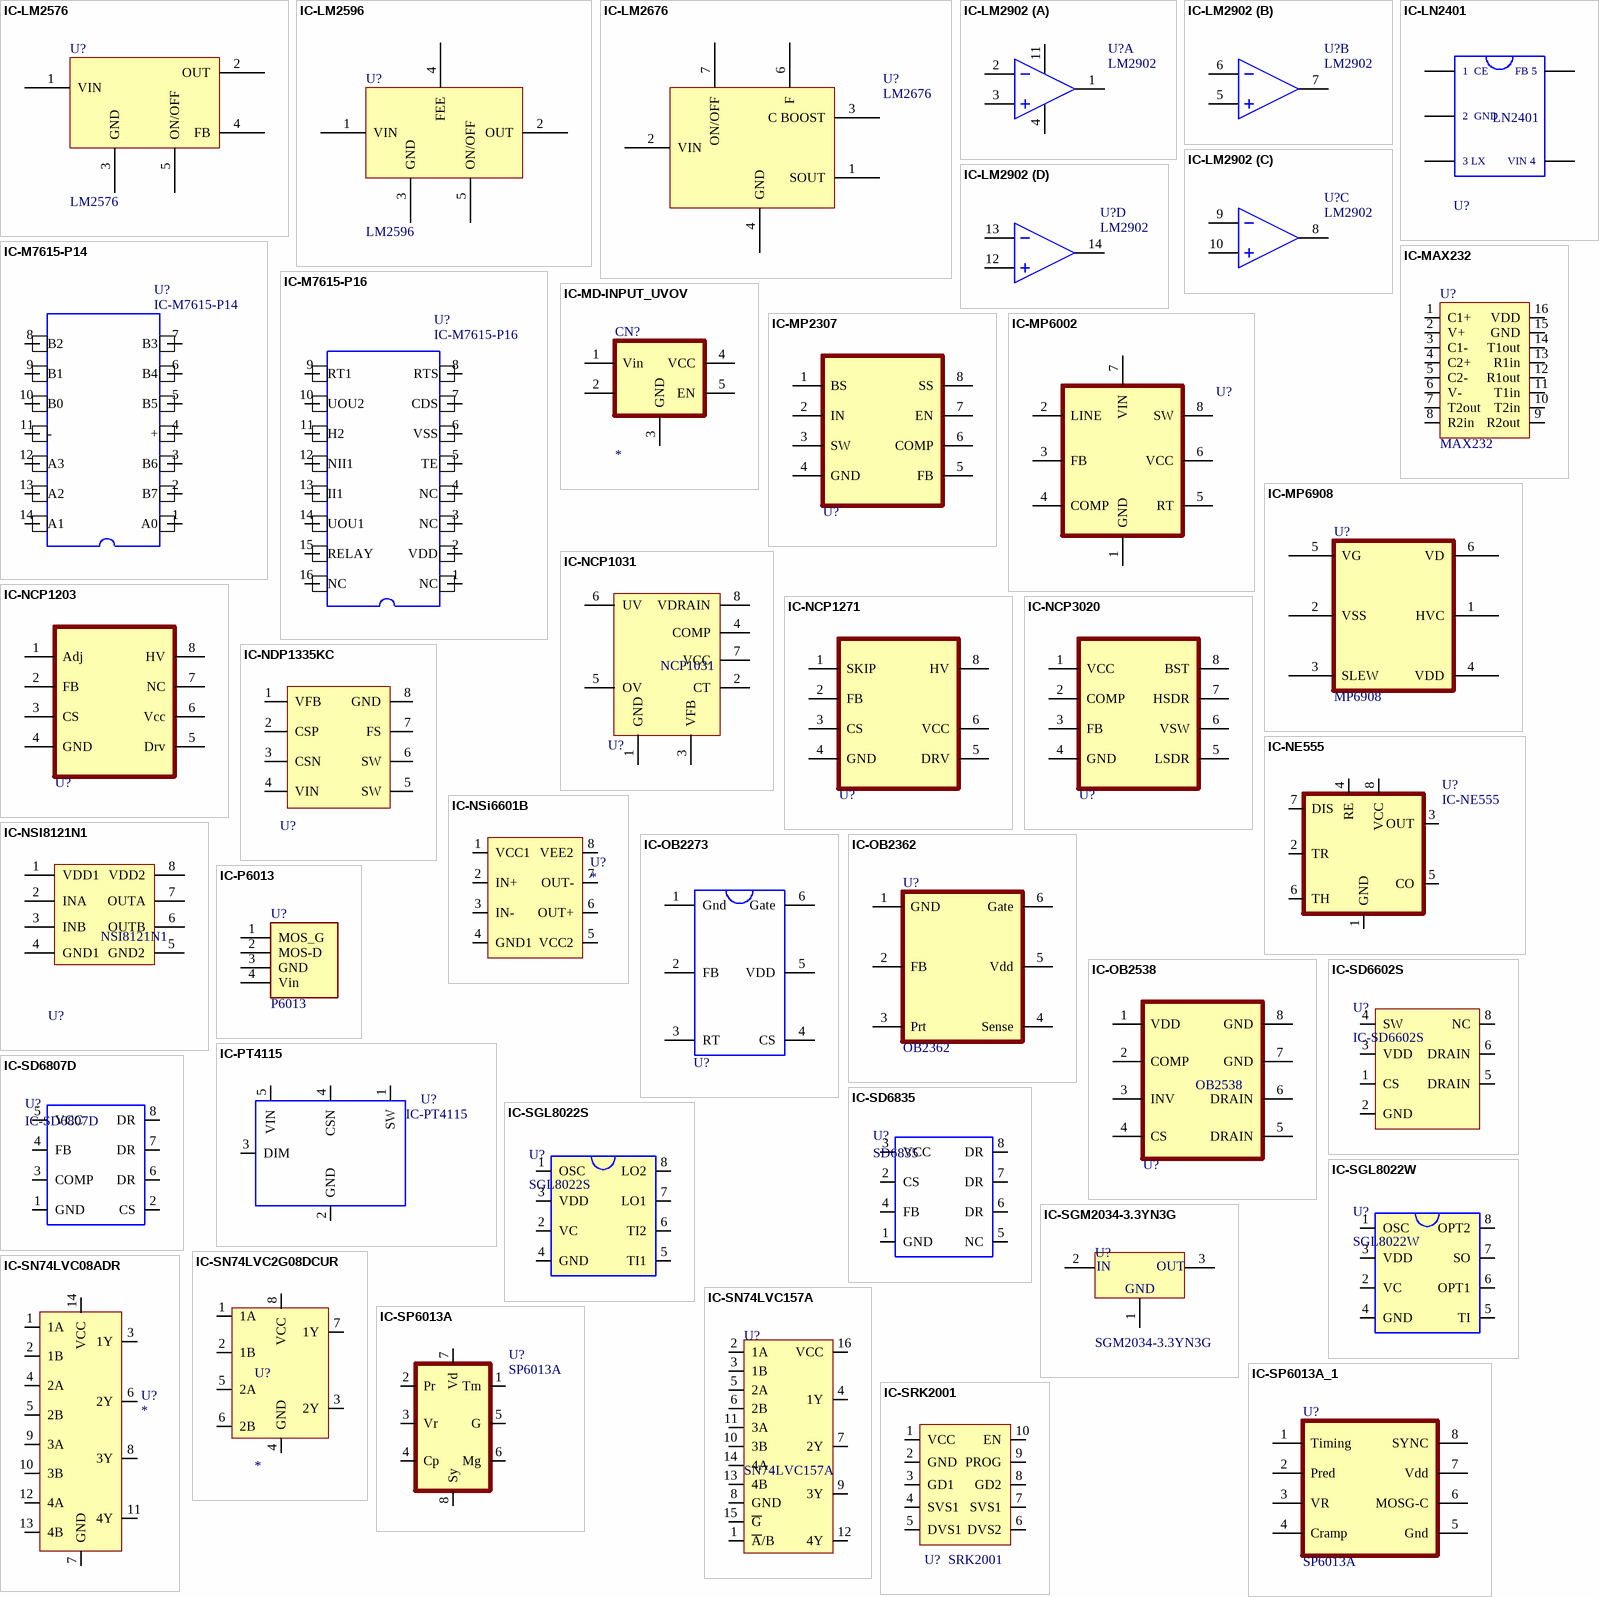
[diagram p4: symbols IC-LM2576 to IC-SRK2001]

## IC-LM2576
designator U?, comment LM2576
降压稳压器
footprint Q-TO-220-5A (LM2576)
pins: 1 VIN, 2 OUT, 3 GND, 4 FB, 5 ON/OFF

## IC-LM2596
designator U?, comment LM2596
降压稳压器
footprint Q-TO-220-5A (LM2576)
pins: 1 VIN, 2 OUT, 3 GND, 4 FEE, 5 ON/OFF

## IC-LM2676
designator U?, comment LM2676
线性电源开关稳压器
footprint Q-TO-220-5A (LM2576)
pins: 1 SOUT, 2 VIN, 3 C BOOST, 4 GND, 6 F, 7 ON/OFF

## IC-LM2902
designator U?, comment LM2902
运放
footprint IC-SOP-14 TDK
part A pins: 1 OUT, 2 IN-, 3 IN+, 4 V+, 11 V-
part B pins: 5 IN+, 6 IN-, 7 OUT
part C pins: 8 OUT, 9 IN-, 10 IN+
part D pins: 12 IN+, 13 IN-, 14 OUT

## IC-LN2401
designator U?, comment LN2401
降压恒流驱动器芯片
footprint IC-SOT-23-5
pins: 1, 2, 3, 4, 5
2 alternate drawings of the same symbol
text: 1  CE; FB 5; 2  GND; 3 LX; VIN 4

## IC-M7615-P14
designator U?
DC 热释红外控制器
footprint SO-14
pins: 1 A0, 2 B7, 3 B6, 4 +, 5 B5, 6 B4, 7 B3, 8 B2, 9 B1, 10 B0, 11 -, 12 A3, 13 A2, 14 A1

## IC-M7615-P16
designator U?
DC 热释红外控制器
footprint SOIC16 (Small Outline; 16 Leads; Body Width 3.9 mm; Pitch 1.27 mm)
pins: 1 NC, 2 VDD, 3 NC, 4 NC, 5 TE, 6 VSS, 7 CDS, 8 RTS, 9 RT1, 10 UOU2, 11 H2, 12 NII1, 13 II1, 14 UOU1, 15 RELAY, 16 NC

## IC-MAX232
designator U?, comment MAX232
接收器/收发器
pins: 1 C1+, 2 V+, 3 C1-, 4 C2+, 5 C2-, 6 V-, 7 T2out, 8 R2in, 9 R2out, 10 T2in, 11 T1in, 12 R1out, 13 R1in, 14 T1out, 15 GND, 16 VDD

## IC-MD-INPUT_UVOV
designator CN?
过欠压保护
footprint IC-MD-INPUT_UVOV (输入过欠压保护板 22*22*5-7mm)
pins: 1 Vin, 2, 3 GND, 4 VCC, 5 EN

## IC-MP2307
designator U?, comment MP2307  (value not drawn)
电源管理芯片
footprint IC-SO-8
footprint IC-DIP8
pins: 1 BS, 2 IN, 3 SW, 4 GND, 5 FB, 6 COMP, 7 EN, 8 SS

## IC-MP6002
designator U?, comment MP6002  (value not drawn)
电源管理芯片; VCC: 4.5－6.0V ON：4.5V; 过欠压: UV_4.5V/OV_6.6V; 频率: 100KR-55Khz,10KR-550khz; 过温保护: 150度_30度; 功率: 6001_15W/6002_30W
footprint IC-SO-8E
footprint IC-DIP8
pins: 1 GND, 2 LINE, 3 FB, 4 COMP, 5 RT, 6 VCC, 7 VIN, 8 SW

## IC-MP6908
designator U?, comment MP6908
电源管理芯片
footprint IC-SO-6-MICR
pins: 1 HVC, 2 VSS, 3 SLEW, 4 VDD, 5 VG, 6 VD

## IC-NCP1031
designator U?, comment NCP1031
驱动芯片; VCC: 9－28.5V ON：14.8V; 过欠压: UV_9V/OV_27.5V; 频率: 14-60Khz; 功率: 2538_20W/2536_16W
footprint DFN-8
pins: 1 GND, 2 CT, 3 VFB, 4 COMP, 5 OV, 6 UV, 7 VCC, 8 VDRAIN

## IC-NCP1203
designator U?, comment NCP1203  (value not drawn)
电源管理芯片
footprint IC-SO-8
footprint IC-DIP8
pins: 1 Adj, 2 FB, 3 CS, 4 GND, 5 Drv, 6 Vcc, 7 NC, 8 HV

## IC-NCP1271
designator U?, comment NCP1271  (value not drawn)
电源管理芯片
footprint IC-SO-8
footprint IC-DIP8
pins: 1 SKIP, 2 FB, 3 CS, 4 GND, 5 DRV, 6 VCC, 8 HV

## IC-NCP3020
designator U?, comment NCP3020  (value not drawn)
电源管理芯片
footprint IC-SO-8
footprint IC-DIP8
pins: 1 VCC, 2 COMP, 3 FB, 4 GND, 5 LSDR, 6 VSW, 7 HSDR, 8 BST

## IC-NDP1335KC
designator U?, comment NDP1335KC  (value not drawn)
DC-DC芯片
footprint IC-SOP-8 (SOIC-8)
pins: 1 VFB, 2 CSP, 3 CSN, 4 VIN, 5 SW, 6 SW, 7 FS, 8 GND

## IC-NE555
designator U?
时基芯片
footprint IC-DIP8
footprint IC-SO-8
pins: 1 GND, 2 TR, 3 OUT, 4 RE, 5 CO, 6 TH, 7 DIS, 8 VCC

## IC-NSi6601B
designator U?
驱动芯片
pins: 1 VCC1, 2 IN+, 3 IN-, 4 GND1, 5 VCC2, 6 OUT+, 7 OUT-, 8 VEE2
2 alternate drawings of the same symbol

## IC-NSI8121N1
designator U?, comment NSI8121N1
数字隔离芯片; VCC: 9－28.5V ON：14.8V; 过欠压: UV_9V/OV_27.5V; 频率: 14-60Khz; 功率: 2538_20W/2536_16W
footprint SOP8-A
pins: 1 VDD1, 2 INA, 3 INB, 4 GND1, 5 GND2, 6 OUTB, 7 OUTA, 8 VDD2

## IC-OB2273
designator U?, comment OB2273  (value not drawn)
电源管理芯片
footprint IC-SOT-23-6
pins: 1 Gnd, 2 FB, 3 RT, 4 CS, 5 VDD, 6 Gate
2 alternate drawings of the same symbol

## IC-OB2362
designator U?, comment OB2362
电源管理芯片
footprint IC-SOT-23-6
pins: 1 GND, 2 FB, 3 Prt, 4 Sense, 5 Vdd, 6 Gate

## IC-OB2538
designator U?, comment OB2538
电源管理芯片; VCC: 9－28.5V ON：14.8V; 过欠压: UV_9V/OV_27.5V; 频率: 14-60Khz; 功率: 2538_20W/2536_16W
footprint IC-SO-8E
footprint IC-DIP8
pins: 1 VDD, 2 COMP, 3 INV, 4 CS, 5 DRAIN, 6 DRAIN, 7 GND, 8 GND

## IC-P6013
designator U?, comment P6013
同步整流芯片
footprint IC-MD-SP6013 Driver (SP6013驱动板 28*22*5mm)
pins: 1 MOS_G, 2 MOS-D, 3 GND, 4 Vin

## IC-PT4115
designator U?
恒流驱动器; I_VCC_ST: 5uA; UVLO_OFF: 14.8; VTH_OC: 0.91V; Freq_Max: 60-75khz
footprint SOT89-5
pins: 1 SW, 2 GND, 3 DIM, 4 CSN, 5 VIN

## IC-SD6602S
designator U?
LED恒流驱动器; 功率: <9w; 系统工作频率: 65~70  KHZ; IST: 50uA; VCS_TH: 500mV; Dmax: 40%; Rdson: 3.7ohm
footprint SOP-7
pins: 1 CS, 2 GND, 3 VDD, 4 SW, 5 DRAIN, 6 DRAIN, 8 NC

## IC-SD6807D
designator U?
电源管理芯片
footprint DIP8
pins: 1 GND, 2 CS, 3 COMP, 4 FB, 5 VCC, 6 DR, 7 DR, 8 DR

## IC-SD6835
designator U?, comment SD6835
电源管理芯片
footprint DIP8
pins: 1 GND, 2 CS, 3 VCC, 4 FB, 5 NC, 6 DR, 7 DR, 8 DR

## IC-SGL8022S
designator U?, comment SGL8022S
两通道触摸开关控制芯片
footprint SO8-150 (Small Outline; 8Leads; Body Width 3.9 mm; Pitch 1.27 mm)
pins: 1 OSC, 2 VC, 3 VDD, 4 GND, 5 TI1, 6 TI2, 7 LO1, 8 LO2

## IC-SGL8022W
designator U?, comment SGL8022W
单通道直流 LED  灯光控制触摸芯片
footprint SO8-150 (Small Outline; 8Leads; Body Width 3.9 mm; Pitch 1.27 mm)
pins: 1 OSC, 2 VC, 3 VDD, 4 GND, 5 TI, 6 OPT1, 7 SO, 8 OPT2

## IC-SGM2034-3.3YN3G
designator U?, comment SGM2034-3.3YN3G
三端稳压管
footprint IC-SOT-89
pins: 1 GND, 2 INPUT, 3 OUTPUT
text: IN; OUT

## IC-SN74LVC2G08DCUR
designator U?
逻辑门
footprint IC-SOT-223 TDK
pins: 1 1A, 2 1B, 3 2Y, 4 GND, 5 2A, 6 2B, 7 1Y, 8 VCC
2 alternate drawings of the same symbol

## IC-SN74LVC08ADR
designator U?
逻辑门
pins: 1 1A, 2 1B, 3 1Y, 4 2A, 5 2B, 6 2Y, 7 GND, 8 3Y, 9 3A, 10 3B, 11 4Y, 12 4A, 13 4B, 14 VCC
2 alternate drawings of the same symbol

## IC-SN74LVC157A
designator U?, comment SN74LVC157A
多路复用器
footprint VQFN-16
pins: 1 ~{A}/B, 2 1A, 3 1B, 4 1Y, 5 2A, 6 2B, 7 2Y, 8 GND, 9 3Y, 10 3B, 11 3A, 12 4Y, 13 4B, 14 4A, 15 ~{G}, 16 VCC

## IC-SP6013A
designator U?, comment SP6013A
同步整流驱动器
footprint IC-SO-8
pins: 1 Tm, 2 Pr, 3 Vr, 4 Cp, 5 G, 6 Mg, 7 Vd, 8 Sy

## IC-SP6013A_1
designator U?, comment SP6013A
同步整流驱动器
footprint IC-SO-8
pins: 1 Timing, 2 Pred, 3 VR, 4 Cramp, 5 Gnd, 6 MOSG-C, 7 Vdd, 8 SYNC

## IC-SRK2001
designator U?, comment SRK2001
同步整流芯片; Value: SRK2001
footprint IC-SOP-10 TDK
pins: 1 VCC, 2 GND, 3 GD1, 4 SVS1, 5 DVS1, 6 DVS2, 7 SVS1, 8 GD2, 9 PROG, 10 EN

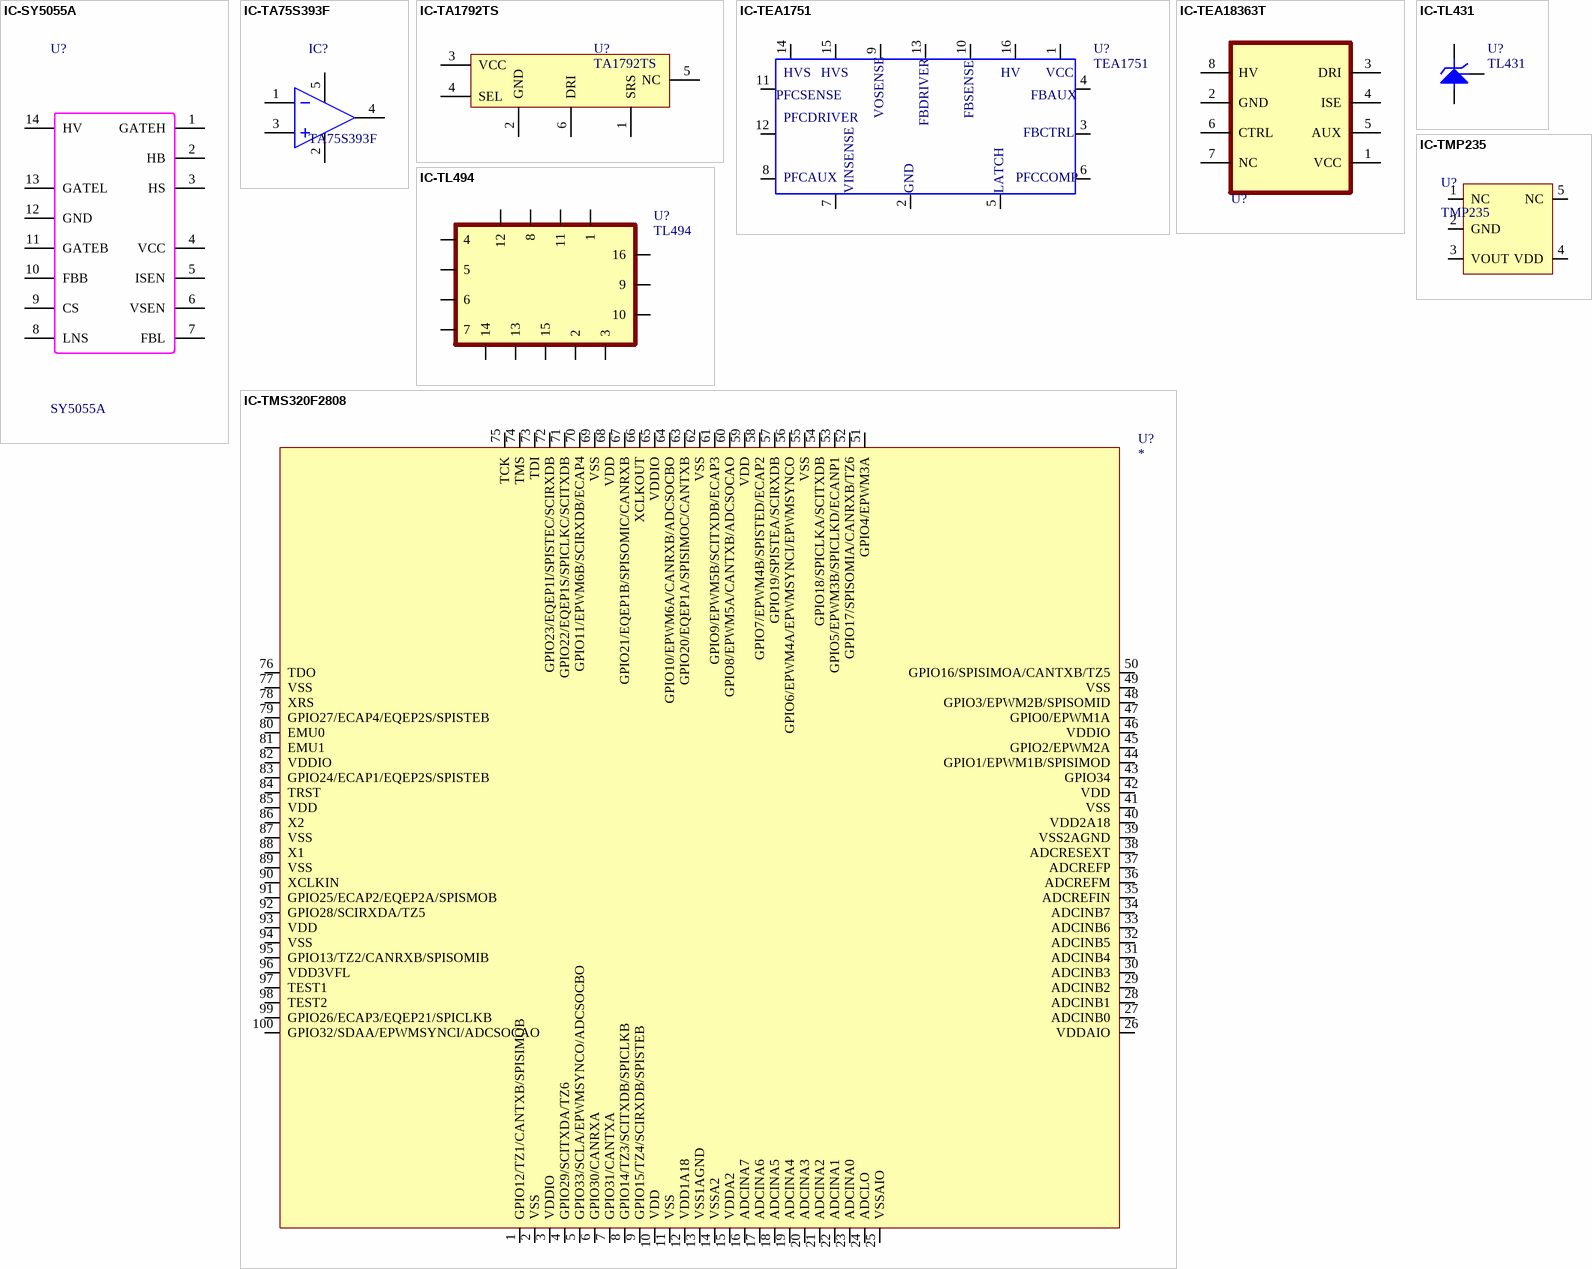
[diagram p5: symbols IC-SY5055A to IC-TMS320F2808]

## IC-SY5055A
designator U?, comment SY5055A
电源管理芯片
pins: 1 GATEH, 2 HB, 3 HS, 4 VCC, 5 ISEN, 6 VSEN, 7 FBL, 8 LNS, 9 CS, 10 FBB, 11 GATEB, 12 GND, 13 GATEL, 14 HV

## IC-TA75S393F
designator IC?, comment TA75S393F
运放
footprint IC-SSOP-5 TA75S393F TDK
pins: 1 IN-, 2 VEE, 3 IN+, 4 OUT, 5 VCC

## IC-TA1792TS
designator U?, comment TA1792TS
同步整流驱动器
footprint IC-SOT-23-6
pins: 1 SRS, 2 GND, 3 VCC, 4 SEL, 5 NC, 6 DRI

## IC-TEA1751
designator U?, comment TEA1751
电源管理芯片
pins: 1, 2, 3, 4, 5, 6, 7, 8, 9, 10, 11, 12, 13, 14, 15, 16
text: HVS; HV; VCC; PFCSENSE; FBAUX; VOSENSE; FBSENSE; PFCDRIVER; FBDRIVER; FBCTRL; PFCAUX; PFCCOMP; VINSENSE; GND; LATCH

## IC-TEA18363T
designator U?, comment TEA18363T  (value not drawn)
电源管理芯片
footprint IC-SO-8
footprint IC-DIP8
pins: 1 VCC, 2 GND, 3 DRI, 4 ISE, 5 AUX, 6 CTRL, 7 NC, 8 HV

## IC-TL431
designator U?, comment TL431
电压基准芯片
footprint Q-TO-92-431
footprint IC-SOT-23-431
pins: A Anode, K Cathode, R Ref

## IC-TL494
designator U?, comment TL494
电源管理芯片; Part Field 1: 1; Part Field 5: 1; Part Field 6: 1K
footprint IC-DIP16
footprint IC-SO-16
pins: 1, 2, 3, 4, 5, 6, 7, 8, 9, 10, 11, 12, 13, 14, 15, 16
2 alternate drawings of the same symbol

## IC-TMP235
designator U?, comment TMP235
温度传感器
pins: 1 NC, 2 GND, 3 VOUT, 4 VDD, 5 NC

## IC-TMS320F2808
designator U?
DSP芯片
pins: 1 GPIO12/TZ1/CANTXB/SPISIMOB, 2 VSS, 3 VDDIO, 4 GPIO29/SCITXDA/TZ6, 5 GPIO33/SCLA/EPWMSYNCO/ADCSOCBO, 6 GPIO30/CANRXA, 7 GPIO31/CANTXA, 8 GPIO14/TZ3/SCITXDB/SPICLKB, 9 GPIO15/TZ4/SCIRXDB/SPISTEB, 10 VDD, 11 VSS, 12 VDD1A18, 13 VSS1AGND, 14 VSSA2, 15 VDDA2, 16 ADCINA7, 17 ADCINA6, 18 ADCINA5, 19 ADCINA4, 20 ADCINA3, 21 ADCINA2, 22 ADCINA1, 23 ADCINA0, 24 ADCLO, 25 VSSAIO, 26 VDDAIO, 27 ADCINB0, 28 ADCINB1, 29 ADCINB2, 30 ADCINB3, 31 ADCINB4, 32 ADCINB5, 33 ADCINB6, 34 ADCINB7, 35 ADCREFIN, 36 ADCREFM, 37 ADCREFP, 38 ADCRESEXT, 39 VSS2AGND, 40 VDD2A18, 41 VSS, 42 VDD, 43 GPIO34, 44 GPIO1/EPWM1B/SPISIMOD, 45 GPIO2/EPWM2A, 46 VDDIO, 47 GPIO0/EPWM1A, 48 GPIO3/EPWM2B/SPISOMID, 49 VSS, 50 GPIO16/SPISIMOA/CANTXB/TZ5, 51 GPIO4/EPWM3A, 52 GPIO17/SPISOMIA/CANRXB/TZ6, 53 GPIO5/EPWM3B/SPICLKD/ECANP1, 54 GPIO18/SPICLKA/SCITXDB, 55 VSS, 56 GPIO6/EPWM4A/EPWMSYNCI/EPWMSYNCO, 57 GPIO19/SPISTEA/SCIRXDB, 58 GPIO7/EPWM4B/SPISTED/ECAP2, 59 VDD, 60 GPIO8/EPWM5A/CANTXB/ADCSOCAO, 61 GPIO9/EPWM5B/SCITXDB/ECAP3, 62 VSS, 63 GPIO20/EQEP1A/SPISIMOC/CANTXB, 64 GPIO10/EPWM6A/CANRXB/ADCSOCBO, 65 VDDIO, 66 XCLKOUT, 67 GPIO21/EQEP1B/SPISOMIC/CANRXB, 68 VDD, 69 VSS, 70 GPIO11/EPWM6B/SCIRXDB/ECAP4, 71 GPIO22/EQEP1S/SPICLKC/SCITXDB, 72 GPIO23/EQEP1I/SPISTEC/SCIRXDB, 73 TDI, 74 TMS, 75 TCK, 76 TDO, 77 VSS, 78 XRS, 79 GPIO27/ECAP4/EQEP2S/SPISTEB, 80 EMU0, 81 EMU1, 82 VDDIO, 83 GPIO24/ECAP1/EQEP2S/SPISTEB, 84 TRST, 85 VDD, 86 X2, 87 VSS, 88 X1, 89 VSS, 90 XCLKIN, 91 GPIO25/ECAP2/EQEP2A/SPISMOB, 92 GPIO28/SCIRXDA/TZ5, 93 VDD, 94 VSS, 95 GPIO13/TZ2/CANRXB/SPISOMIB, 96 VDD3VFL, 97 TEST1, 98 TEST2, 99 GPIO26/ECAP3/EQEP21/SPICLKB, 100 GPIO32/SDAA/EPWMSYNCI/ADCSOCAO

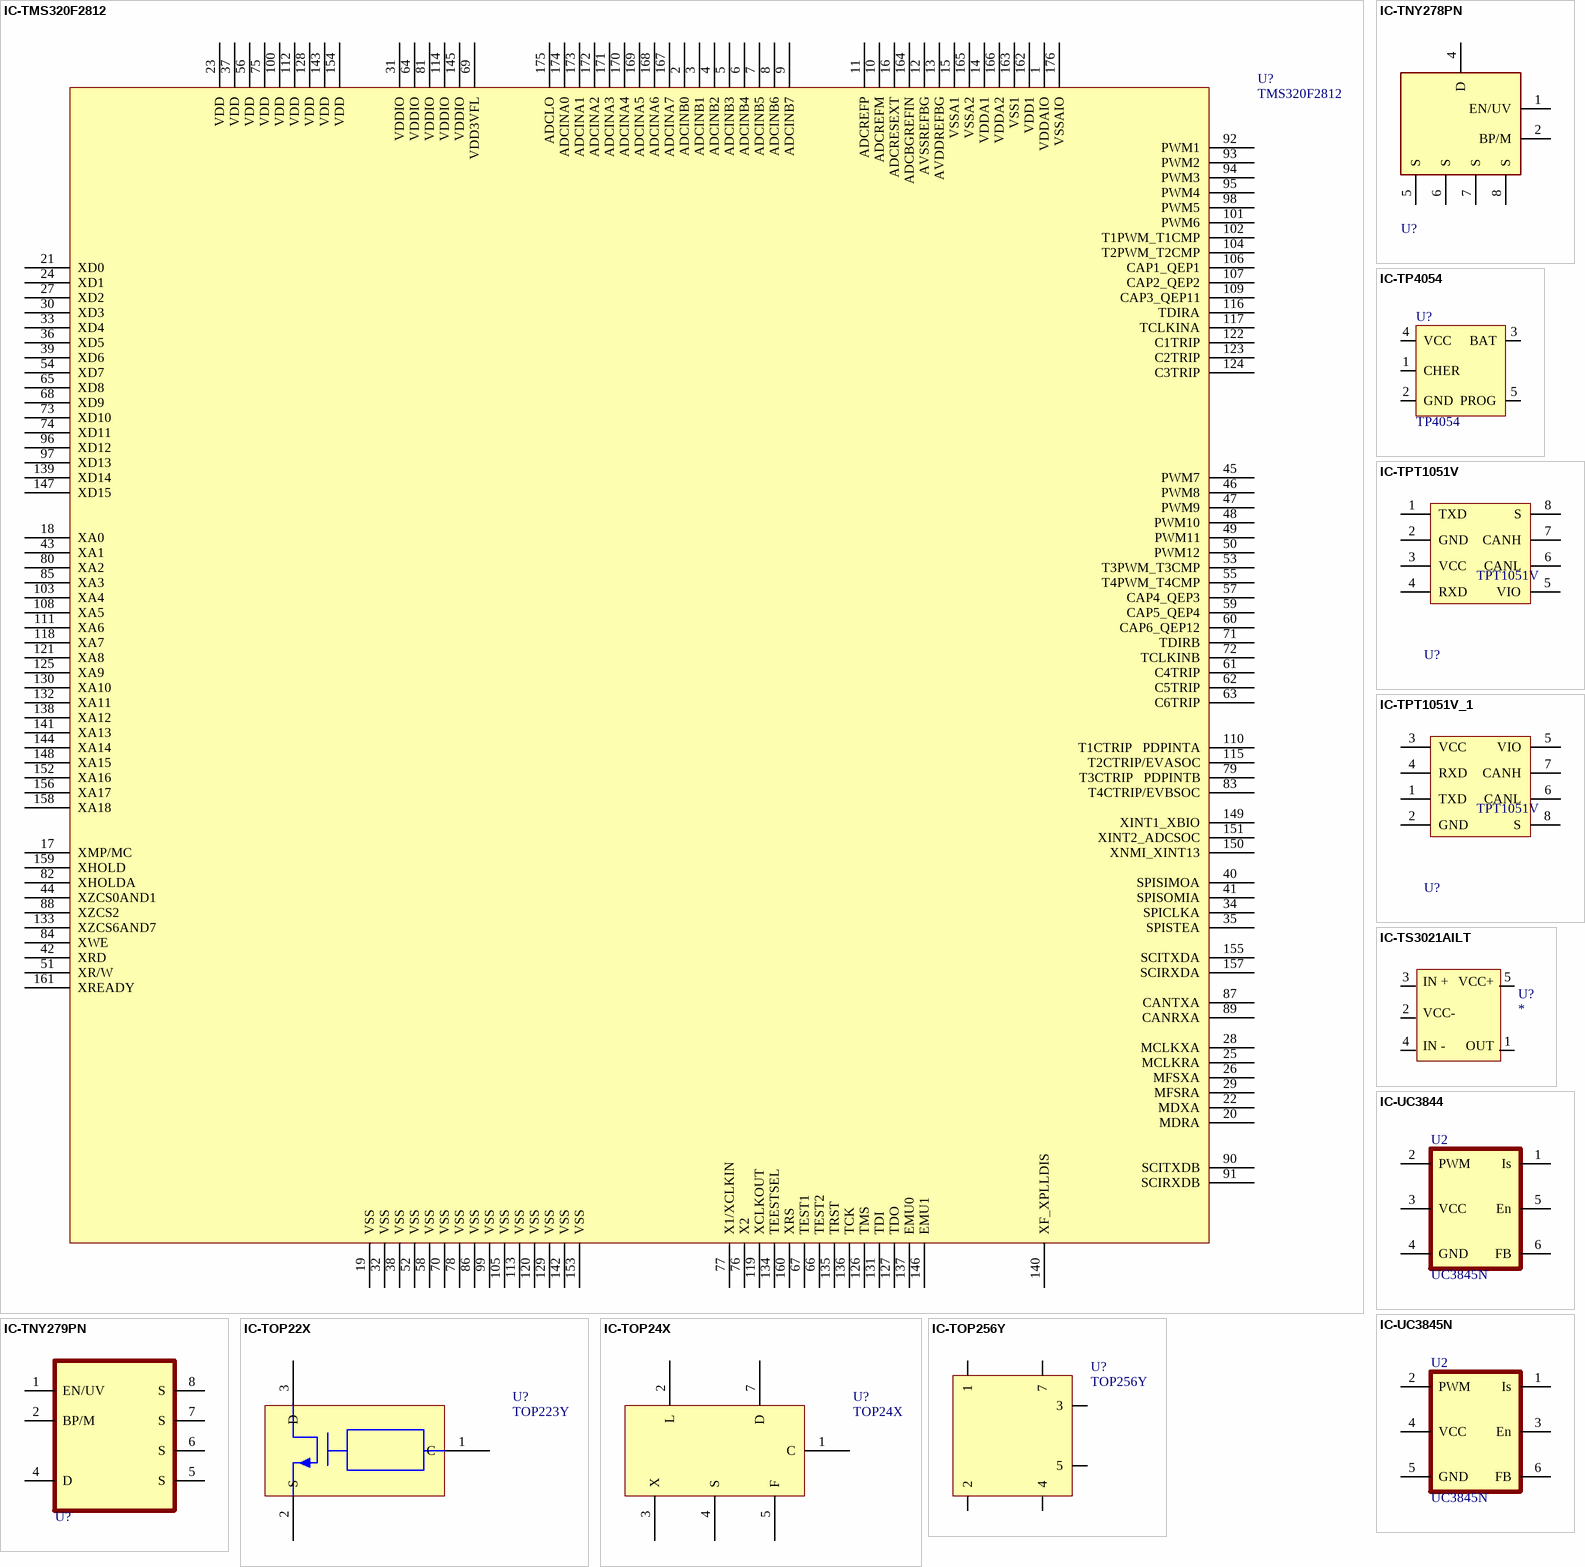
[diagram p6: symbols IC-TMS320F2812 to IC-UC3845N]

## IC-TMS320F2812
designator U?, comment TMS320F2812
DSP芯片
pins: 1 VDDAIO, 2 ADCINB0, 3 ADCINB1, 4 ADCINB2, 5 ADCINB3, 6 ADCINB4, 7 ADCINB5, 8 ADCINB6, 9 ADCINB7, 10 ADCREFM, 11 ADCREFP, 12 AVSSREFBG, 13 AVDDREFBG, 14 VDDA1, 15 VSSA1, 16 ADCRESEXT, 17 XMP/MC, 18 XA0, 19 VSS, 20 MDRA, 21 XD0, 22 MDXA, 23 VDD, 24 XD1, 25 MCLKRA, 26 MFSXA, 27 XD2, 28 MCLKXA, 29 MFSRA, 30 XD3, 31 VDDIO, 32 VSS, 33 XD4, 34 SPICLKA, 35 SPISTEA, 36 XD5, 37 VDD, 38 VSS, 39 XD6, 40 SPISIMOA, 41 SPISOMIA, 42 XRD, 43 XA1, 44 XZCS0AND1, 45 PWM7, 46 PWM8, 47 PWM9, 48 PWM10, 49 PWM11, 50 PWM12, 51 XR/W, 52 VSS, 53 T3PWM_T3CMP, 54 XD7, 55 T4PWM_T4CMP, 56 VDD, 57 CAP4_QEP3, 58 VSS, 59 CAP5_QEP4, 60 CAP6_QEP12, 61 C4TRIP, 62 C5TRIP, 63 C6TRIP, 64 VDDIO, 65 XD8, 66 TEST2, 67 TEST1, 68 XD9, 69 VDD3VFL, 70 VSS, 71 TDIRB, 72 TCLKINB, 73 XD10, 74 XD11, 75 VDD, 76 X2, 77 X1/XCLKIN, 78 VSS, 79 T3CTRIP   PDPINTB, 80 XA2, 81 VDDIO, 82 XHOLDA, 83 T4CTRIP/EVBSOC, 84 XWE, 85 XA3, 86 VSS, 87 CANTXA, 88 XZCS2, 89 CANRXA, 90 SCITXDB, 91 SCIRXDB, 92 PWM1, 93 PWM2, 94 PWM3, 95 PWM4, 96 XD12, 97 XD13, 98 PWM5, 99 VSS, 100 VDD, 101 PWM6, 102 T1PWM_T1CMP, 103 XA4, 104 T2PWM_T2CMP, 105 VSS, 106 CAP1_QEP1, 107 CAP2_QEP2, 108 XA5, 109 CAP3_QEP11, 110 T1CTRIP   PDPINTA, 111 XA6, 112 VDD, 113 VSS, 114 VDDIO, 115 T2CTRIP/EVASOC, 116 TDIRA, 117 TCLKINA, 118 XA7, 119 XCLKOUT, 120 VSS, 121 XA8, 122 C1TRIP, 123 C2TRIP, 124 C3TRIP, 125 XA9, 126 TMS, 127 TDO, 128 VDD, 129 VSS, 130 XA10, 131 TDI, 132 XA11, 133 XZCS6AND7, 134 TEESTSEL, 135 TRST, 136 TCK, 137 EMU0, 138 XA12, 139 XD14, 140 XF_XPLLDIS, 141 XA13, 142 VSS, 143 VDD, 144 XA14, 145 VDDIO, 146 EMU1, 147 XD15, 148 XA15, 149 XINT1_XBIO, 150 XNMI_XINT13, 151 XINT2_ADCSOC, 152 XA16, 153 VSS, 154 VDD, 155 SCITXDA, 156 XA17, 157 SCIRXDA, 158 XA18, 159 XHOLD, 160 XRS, 161 XREADY, 162 VDD1, 163 VSS1, 164 ADCBGREFIN, 165 VSSA2, 166 VDDA2, 167 ADCINA7, 168 ADCINA6, 169 ADCINA5, 170 ADCINA4, 171 ADCINA3, 172 ADCINA2, 173 ADCINA1, 174 ADCINA0, 175 ADCLO, 176 VSSAIO

## IC-TNY278PN
designator U?, comment TNY278PN  (value not drawn)
电源管理芯片
footprint IC-SO-8
footprint IC-DIP8
pins: 1 EN/UV, 2 BP/M, 4 D, 5 S, 6 S, 7 S, 8 S

## IC-TNY279PN
designator U?, comment TNY279PN  (value not drawn)
电源管理芯片
footprint IC-SO-8
footprint IC-DIP8
pins: 1 EN/UV, 2 BP/M, 4 D, 5 S, 6 S, 7 S, 8 S

## IC-TOP22X
designator U?, comment TOP223Y
电源管理芯片
footprint IC-TOP22X
pins: 1 C, 2 S, 3 D

## IC-TOP24X
designator U?, comment TOP24X
电源管理芯片
footprint IC-TOP24X
footprint IC-TOP247
pins: 1 C, 2 L, 3 X, 4 S, 5 F, 7 D

## IC-TOP256Y
designator U?, comment TOP256Y
电源管理芯片
pins: 1, 2, 3, 4, 5, 7

## IC-TP4054
designator U?, comment TP4054
锂电充电芯片
pins: 1 CHER, 2 GND, 3 BAT, 4 VCC, 5 PROG

## IC-TPT1051V
designator U?, comment TPT1051V
CAN芯片; VCC: 9－28.5V ON：14.8V; 过欠压: UV_9V/OV_27.5V; 频率: 14-60Khz; 功率: 2538_20W/2536_16W
footprint SOP8-A
pins: 1 TXD, 2 GND, 3 VCC, 4 RXD, 5 VIO, 6 CANL, 7 CANH, 8 S

## IC-TPT1051V_1
designator U?, comment TPT1051V
CAN芯片; VCC: 9－28.5V ON：14.8V; 过欠压: UV_9V/OV_27.5V; 频率: 14-60Khz; 功率: 2538_20W/2536_16W
footprint SOP8-A
pins: 1 TXD, 2 GND, 3 VCC, 4 RXD, 5 VIO, 6 CANL, 7 CANH, 8 S

## IC-TS3021AILT
designator U?
运放TS3021AILT 丝印K522
footprint SOT23-5
pins: 1 OUT, 2 VCC-, 3 IN +, 4 IN -, 5 VCC+
2 alternate drawings of the same symbol

## IC-UC3844
designator U2, comment UC3845N
电源管理芯片
footprint IC-MD-UC384X Driver V1 (384X驱动板 22*22*5-7mm)
pins: 1 Is, 2 PWM, 3 VCC, 4 GND, 5 En, 6 FB

## IC-UC3845N
designator U2, comment UC3845N
电源管理芯片
footprint IC-MD-UC384X Driver V2 (384X驱动板 22*22*5-7mm)
pins: 1 Is, 2 PWM, 3 En, 4 VCC, 5 GND, 6 FB

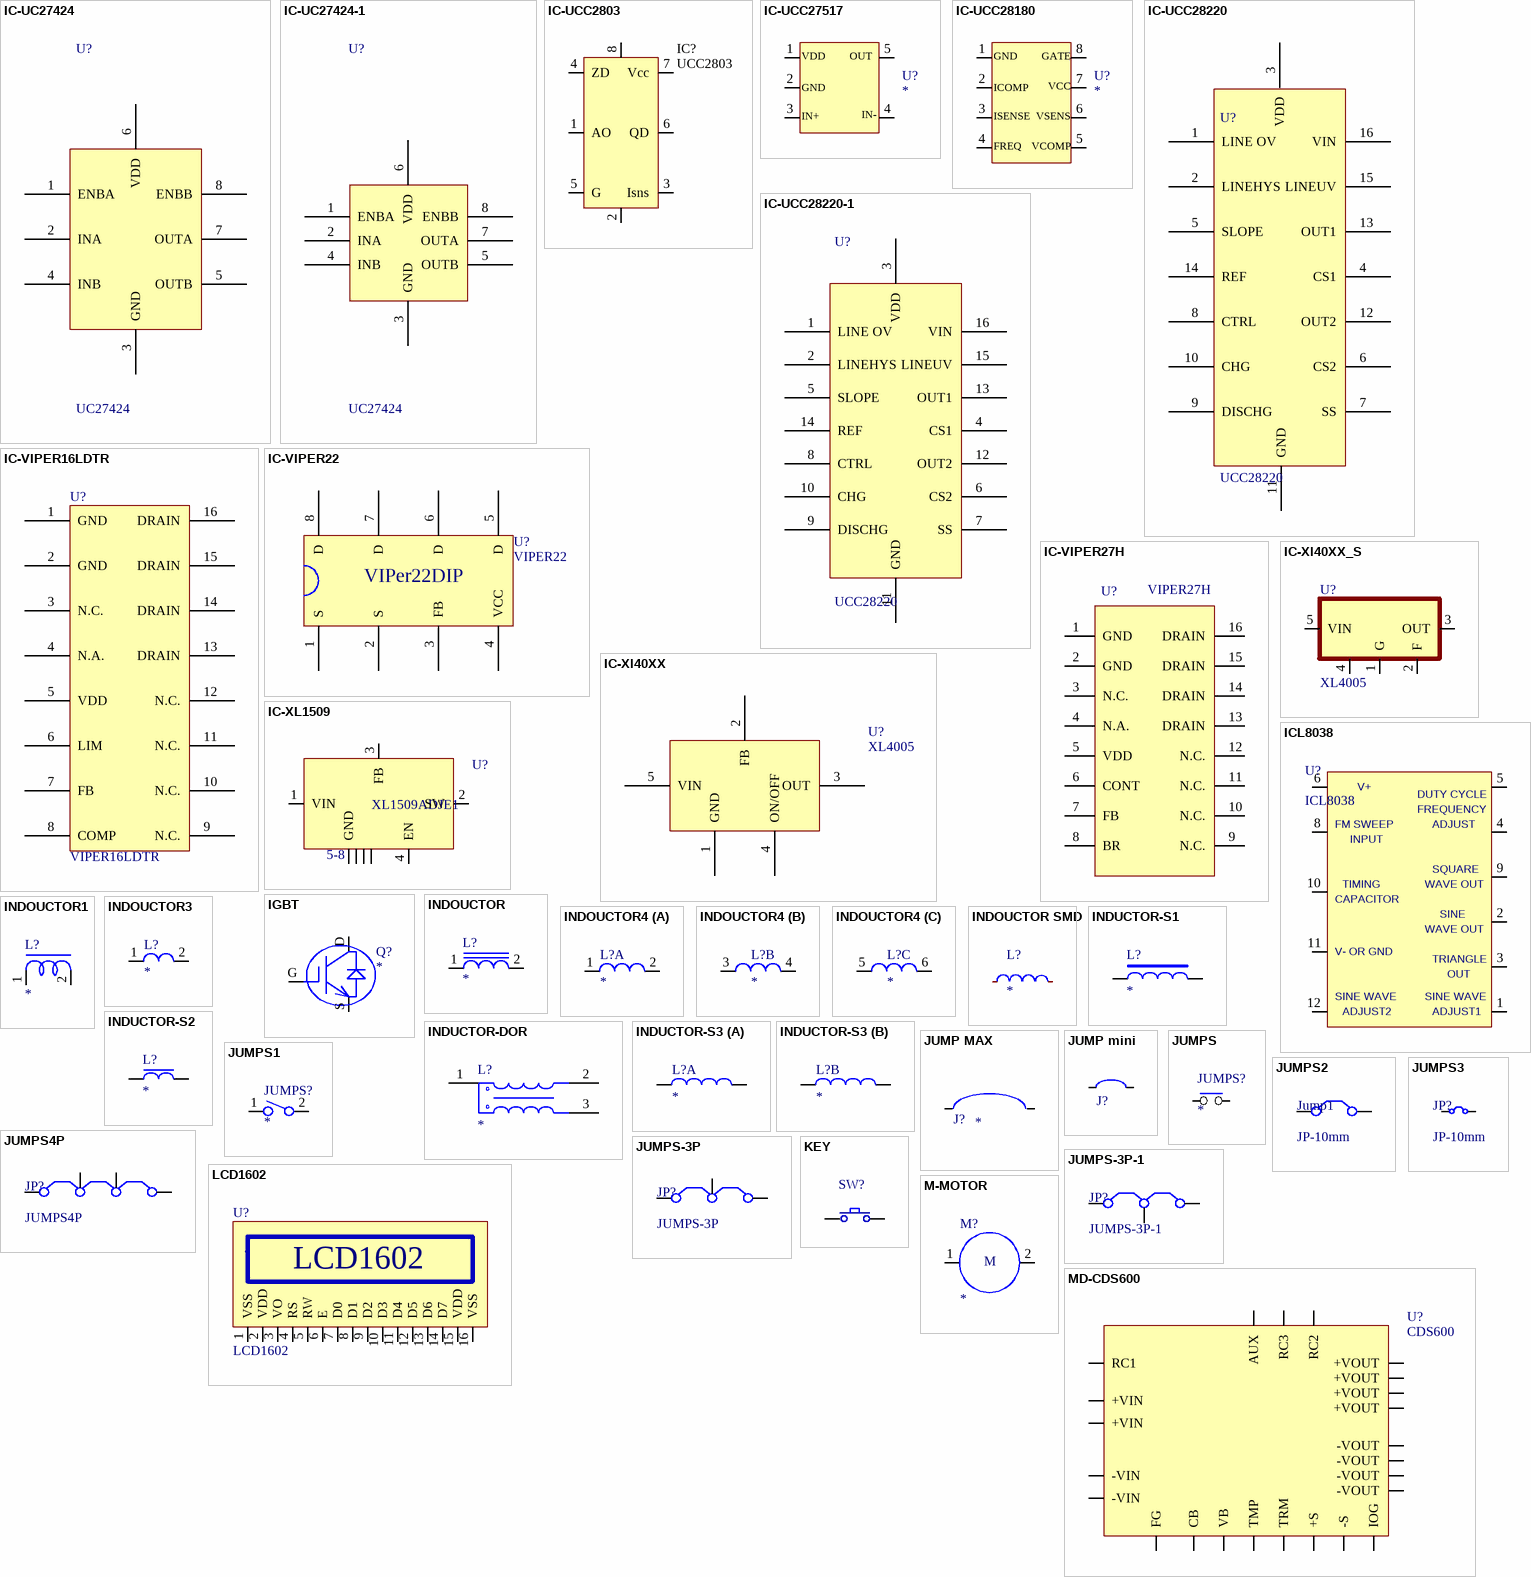
[diagram p7: symbols IC-UC27424 to MD-CDS600]

## IC-UC27424
designator U?, comment UC27424
MOS驱动器
footprint IC-SOP-8 (SOIC-8)
pins: 1 ENBA, 2 INA, 3 GND, 4 INB, 5 OUTB, 6 VDD, 7 OUTA, 8 ENBB

## IC-UC27424-1
designator U?, comment UC27424
MOS驱动器
footprint IC-DIP16
footprint IC-SOP-8 (SOIC-8)
pins: 1 ENBA, 2 INA, 3 GND, 4 INB, 5 OUTB, 6 VDD, 7 OUTA, 8 ENBB

## IC-UCC2803
designator IC?, comment UCC2803
电源管理芯片
footprint SO8
footprint SO-8
pins: 1 AO, 2 A-, 3 Isns, 4 ZD, 5 G (power), 6 QD, 7 Vcc (power), 8 Vref

## IC-UCC27517
designator U?
电源低侧栅极驱动器
footprint IC-SOT-23-5 TDK
pins: 1, 2, 3, 4, 5
2 alternate drawings of the same symbol
text: VDD; OUT; GND; IN+; IN-

## IC-UCC28180
designator U?
电源PFC芯片
footprint IC-SOP-8 TDK
pins: 1, 2, 3, 4, 5, 6, 7, 8
2 alternate drawings of the same symbol
text: GND; GATE; ICOMP; VCC; ISENSE; VSENS; FREQ; VCOMP

## IC-UCC28220
designator U?, comment UCC28220
电源管理芯片
footprint IC-SOP-16 (SOIC-16)
footprint IC-SOP-8 (SOIC-8)
pins: 1 LINE OV, 2 LINEHYS, 3 VDD, 4 CS1, 5 SLOPE, 6 CS2, 7 SS, 8 CTRL, 9 DISCHG, 10 CHG, 11 GND, 12 OUT2, 13 OUT1, 14 REF, 15 LINEUV, 16 VIN

## IC-UCC28220-1
designator U?, comment UCC28220
电源管理芯片
footprint IC-SOP-16 (SOIC-16)
footprint IC-SOP-8 (SOIC-8)
pins: 1 LINE OV, 2 LINEHYS, 3 VDD, 4 CS1, 5 SLOPE, 6 CS2, 7 SS, 8 CTRL, 9 DISCHG, 10 CHG, 11 GND, 12 OUT2, 13 OUT1, 14 REF, 15 LINEUV, 16 VIN

## IC-VIPER16LDTR
designator U?, comment VIPER16LDTR
电源管理芯片
footprint IC-DIP16
pins: 1 GND, 2 GND, 3 N.C., 4 N.A., 5 VDD, 6 LIM, 7 FB, 8 COMP, 9 N.C., 10 N.C., 11 N.C., 12 N.C., 13 DRAIN, 14 DRAIN, 15 DRAIN, 16 DRAIN

## IC-VIPER22
designator U?, comment VIPER22
电源管理芯片
footprint IC-so-8
footprint iC-dip8
pins: 1 S, 2 S, 3 FB, 4 VCC, 5 D, 6 D, 7 D, 8 D
text: VIPer22DIP

## IC-VIPER27H
designator U?, comment VIPER27H
电源管理芯片
footprint IC-SOP-16-M (SOIC-16)
footprint IC-SOP-16 TDK
pins: 1 GND, 2 GND, 3 N.C., 4 N.A., 5 VDD, 6 CONT, 7 FB, 8 BR, 9 N.C., 10 N.C., 11 N.C., 12 N.C., 13 DRAIN, 14 DRAIN, 15 DRAIN, 16 DRAIN

## IC-Xl40XX
designator U?, comment XL4005
降压芯片
footprint Q-TO-263-5L
pins: 1 GND, 2 FB, 3 OUT, 4 ON/OFF, 5 VIN

## IC-Xl40XX_S
designator U?, comment XL4005
降压芯片
footprint Q-TO-263-5L
pins: 1 G, 2 F, 3 OUT, 4 ON/OFF, 5 VIN

## IC-XL1509
designator U?, comment XL1509ADJE1
检验芯片
footprint IC-SO-8
pins: 1 VIN, 2 SW, 3 FB, 4 EN, 5 GND, 6, 7, 8
text: 5-8

## ICL8038
designator U?
精密函数发生器
footprint DIP14
pins: 1, 2, 3, 4, 5, 6, 8, 9, 10, 11, 12
text: V+; DUTY CYCLE; FREQUENCY; FM SWEEP; ADJUST; INPUT; SQUARE; TIMING; WAVE OUT; CAPACITOR; SINE; V- OR GND; TRIANGLE; OUT; SINE WAVE; ADJUST2; ADJUST1

## IGBT
designator Q?
绝缘栅双极型晶体管
pins: D, G, S

## INDOUCTOR
designator L?
电感
pins: 1, 2

## INDOUCTOR1
designator L?
电感
pins: 1, 2

## INDOUCTOR3
designator L?
电感
pins: 1, 2

## INDOUCTOR4
designator L?
电感
part A pins: 1, 2
part B pins: 3, 4
part C pins: 5, 6

## INDOUCTOR SMD
designator L?
电感SMD
pins: 1, 2

## INDUCTOR-DOR
designator L?
电感
pins: 1, 2, 3

## INDUCTOR-S1
designator L?
电感
footprint T-LG6
footprint T-LG9
pins: 1, 2

## INDUCTOR-S2
designator L?
电感
footprint T-LG6
footprint T-LG9
pins: 1, 2

## INDUCTOR-S3
designator L?
电感
footprint T-LG6
footprint T-LG9
part A pins: 1, 2
part B pins: 3, 4

## JUMP MAX
designator J?
跳线
footprint JP5
footprint JP10
footprint JP15
footprint JP20
pins: 1, 2

## JUMP mini
designator J?  (value not drawn)
跳线
footprint JP5
footprint JP10
footprint JP15
footprint JP20
footprint JP5.5
footprint JP7.5
footprint JP12
pins: 1, 2

## JUMPS
designator JUMPS?
开关
pins: 1, 2

## JUMPS1
designator JUMPS?
开关
pins: 1, 2

## JUMPS2
designator Jump1, comment JP-10mm
跳线; Published: 24-Mar-1999; LatestRevisionDate: 17-Jul-2002; LatestRevisionNote: Re-released for DXP Platform.; PackageReference: RAD-0.2; Publisher: Altium Limited
footprint JP-8mm
footprint JP-10mm
footprint JP-5mm
footprint JP-12.5mm
footprint JP-7mm
pins: 1 C1, 2 C2

## JUMPS3
designator JP?, comment JP-10mm
跳线; Published: 24-Mar-1999; LatestRevisionDate: 17-Jul-2002; LatestRevisionNote: Re-released for DXP Platform.; PackageReference: RAD-0.2; Publisher: Altium Limited
footprint JP-8mm
footprint JP-10mm
footprint JP-5mm
footprint JP-12.5mm
footprint JP-7mm
pins: 1 C1, 2 C2

## JUMPS4P
designator JP?
跳线; Published: 24-Mar-1999; LatestRevisionDate: 17-Jul-2002; LatestRevisionNote: Re-released for DXP Platform.; PackageReference: RAD-0.2; Publisher: Altium Limited
footprint JP-8mm
footprint JP-10mm
footprint JP-12.5mm
footprint JP-7mm
pins: 1 JUMP, 2 JUMP, 3 JUMP, 4 JUMP

## JUMPS-3P
designator JP?
跳线; Published: 24-Mar-1999; LatestRevisionDate: 17-Jul-2002; LatestRevisionNote: Re-released for DXP Platform.; PackageReference: RAD-0.2; Publisher: Altium Limited
footprint JP-8mm
footprint JP-10mm
footprint JP-12.5mm
footprint JP-7mm
pins: 1 JUMP, 2 JUMP, 3 JUMP

## JUMPS-3P-1
designator JP?
跳线; Published: 24-Mar-1999; LatestRevisionDate: 17-Jul-2002; LatestRevisionNote: Re-released for DXP Platform.; PackageReference: RAD-0.2; Publisher: Altium Limited
footprint JP-8mm
footprint JP-10mm
footprint JP-12.5mm
footprint JP-7mm
pins: 1 JUMP, 2 JUMP, 3 JUMP

## KEY
designator SW?  (value not drawn)
按键开关
footprint SW6X6SMD
footprint SW4X4SMD
footprint SW6X6插件
footprint SW4.5X4.5插件
footprint SW-0155C
footprint SW12X12插件
pins: 1, 2

## LCD1602
designator U?
1602 字符点阵 液晶屏模组
pins: 1 VSS, 2 VDD, 3 VO, 4 RS, 5 RW, 6 E, 7 D0, 8 D1, 9 D2, 10 D3, 11 D4, 12 D5, 13 D6, 14 D7, 15 VDD, 16 VSS

## M-MOTOR
designator M?
电动机
pins: 1, 2
text: M

## MD-CDS600
designator U?, comment CDS600
COSEL
footprint MD-CDS600
pins: 1 +VIN, 2 +VIN, 3 -VIN, 4 -VIN, 5 RC1, 6 +VOUT, 7 +VOUT, 8 +VOUT, 9 +VOUT, 10 -VOUT, 11 -VOUT, 12 -VOUT, 13 -VOUT, 14 CB, 15 VB, 16 TMP, 17 RC3, 18 RC2, 19 TRM, 20 +S, 21 -S, 22 IOG, 23 AUX, 24 FG

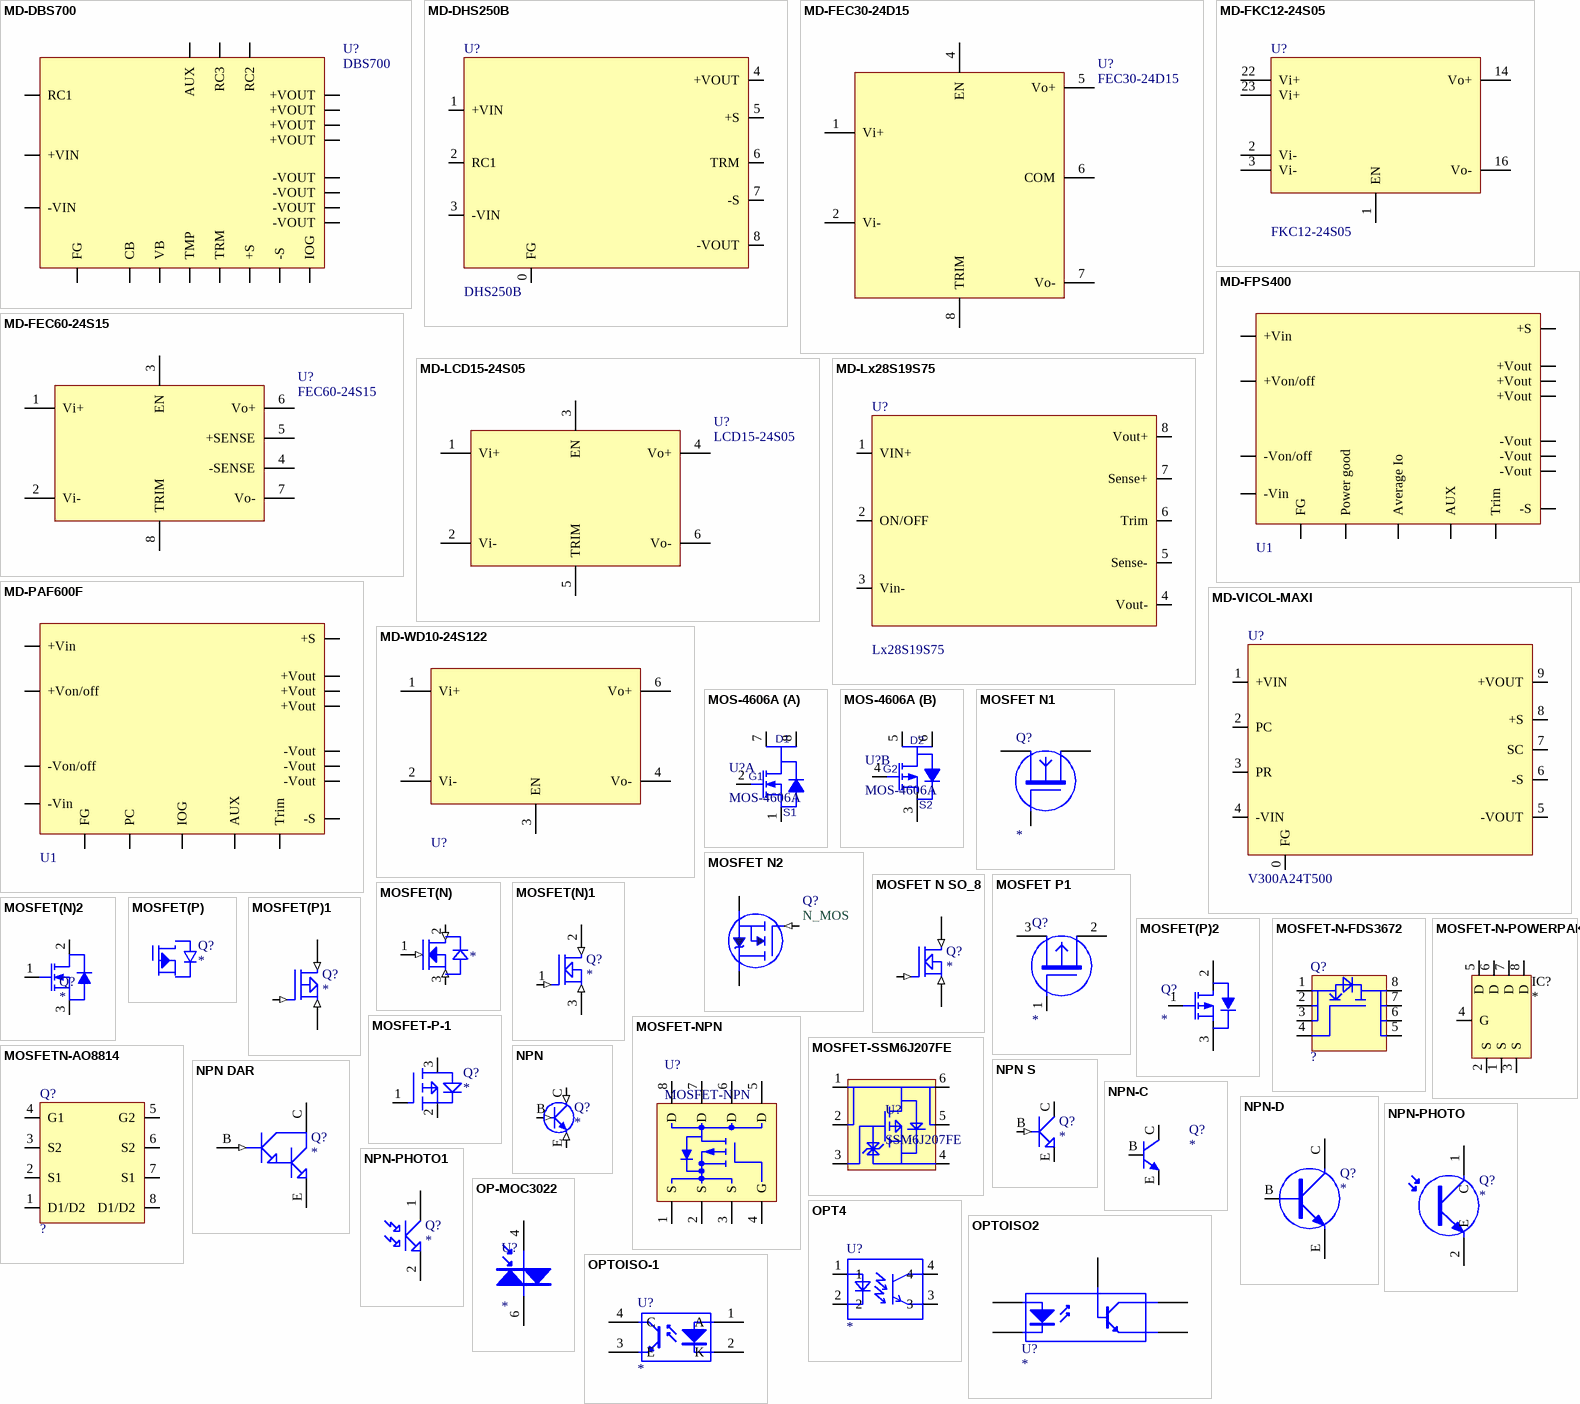
[diagram p8: symbols MD-DBS700 to OPTOISO-1]

## MD-DBS700
designator U?, comment DBS700
COSEL
footprint MD-DBS700
pins: 1 +VIN, 2 -VIN, 3 RC1, 4 +VOUT, 5 +VOUT, 6 +VOUT, 7 +VOUT, 8 -VOUT, 9 -VOUT, 10 -VOUT, 11 -VOUT, 12 CB, 13 VB, 14 TMP, 15 RC3, 16 RC2, 17 TRM, 18 +S, 19 -S, 20 IOG, 21 AUX, 22 FG

## MD-DHS250B
designator U?, comment DHS250B
COSEL
footprint MD-DHS250B (COSEl电源模块 220 to 28V 250W)
pins: 0 FG, 1 +VIN, 2 RC1, 3 -VIN, 4 +VOUT, 5 +S, 6 TRM, 7 -S, 8 -VOUT

## MD-FEC30-24D15
designator U?, comment FEC30-24D15
P-DUKE
footprint MD-FEC30-D
pins: 1 Vi+, 2 Vi-, 4 EN, 5 Vo+, 6 COM, 7 Vo-, 8 TRIM

## MD-FEC60-24S15
designator U?, comment FEC60-24S15
P-DUKE
footprint MD-FEC60
pins: 1 Vi+, 2 Vi-, 3 EN, 4 -SENSE, 5 +SENSE, 6 Vo+, 7 Vo-, 8 TRIM

## MD-FKC12-24S05
designator U?, comment FKC12-24S05
P-DUKE
footprint MD-FKC12
pins: 1 EN, 2 Vi-, 3 Vi-, 14 Vo+, 16 Vo-, 22 Vi+, 23 Vi+

## MD-FPS400
designator U1, comment FBS400-300S28NIL  (value not drawn)
N为负逻辑，L为螺纹孔，中电华星
footprint MD-FBS400 (FBS400-300S28NIL)
pins: 1 -Vin, 2 +Vin, 3 -Von/off, 4 +Von/off, 5 +Vout, 6 +Vout, 7 +Vout, 8 -Vout, 9 -Vout, 10 -Vout, 11 -S, 12 +S, 13 Trim, 14 Power good, 15 Average Io, 16 AUX, 17 FG

## MD-LCD15-24S05
designator U?, comment LCD15-24S05
P-DUKE
footprint MD-LCD15
pins: 1 Vi+, 2 Vi-, 3 EN, 4 Vo+, 5 TRIM, 6 Vo-

## MD-Lx28S19S75
designator U?, comment Lx28S19S75
VICOL MAXI
footprint MD-VICOR-MAXI (TDK-lambda)
pins: 1 VIN+, 2 ON/OFF, 3 Vin-, 4 Vout-, 5 Sense-, 6 Trim, 7 Sense+, 8 Vout+

## MD-PAF600F
designator U1, comment PAF600F  (value not drawn)
TDK-LAMBDA
footprint MD-PAF600F (TDK-lambda)
pins: 1 -Vin, 2 +Vin, 3 -Von/off, 4 +Von/off, 5 +Vout, 6 +Vout, 7 +Vout, 8 -Vout, 9 -Vout, 10 -Vout, 11 -S, 12 +S, 13 Trim, 14 PC, 15 IOG, 16 AUX, 17 FG

## MD-VICOL-MAXI
designator U?, comment V300A24T500
VICOL MAXI
footprint MD-VICOR-MAXI (TDK-lambda)
pins: 0 FG, 1 +VIN, 2 PC, 3 PR, 4 -VIN, 5 -VOUT, 6 -S, 7 SC, 8 +S, 9 +VOUT

## MD-WD10-24S122
designator U?, comment WD10-24S122  (value not drawn)
北京伟仕电源
footprint MD-WD10-24S122
pins: 1 Vi+, 2 Vi-, 3 EN, 4 Vo-, 6 Vo+
1 alternate drawing of the same symbol

## MOS-4606A
designator U?
通用高压板沟MOS管
footprint SO8-150 (Small Outline; 8Leads; Body Width 3.9 mm; Pitch 1.27 mm)
footprint SOP-8
part A pins: 1 S1, 2 G1, 7 D, 8 D
part B pins: 3 S, 4 G, 5 D, 6 D
part A text: D1
part B text: D2; G2; S2

## MOSFET N1
designator Q?
场效应管
footprint Q-TO-220AB
pins: 1 G, 2 D, 3 S

## MOSFET N2
designator Q?, comment N_MOS
场效应管
footprint Q-to-247
footprint Q-to-220AB
pins: 1 GATE (in), 2 DRAIN, 3 SOURCE
2 alternate drawings of the same symbol

## MOSFET N SO_8
designator Q?
场效应管
footprint IC-SO-8
pins: 1 S (in), 2 S (in), 3 S (in), 4 G (in), 5 D (in), 6 D (in), 7 D (in), 8 D (in)

## MOSFET P1
designator Q?
场效应管
footprint Q-TO-220AB
pins: 1 G, 2 D, 3 S

## MOSFET(N)
designator ?
场效应管
pins: 1 (in), 2 (in), 3 (in)

## MOSFET(N)1
designator Q?
场效应管
footprint Q-TO-220AB
pins: 1 G (in), 2 D (in), 3 S (in)

## MOSFET(N)2
designator Q?
场效应管; PackageDocument: 1995/1996; Published: 8-Jun-2000; LatestRevisionDate: 17-Jul-2002; LatestRevisionNote: Re-released for DXP Platform.; PackageReference: E3; Publisher: Altium Limited
simulation model NMOS (MOSFET-N)
footprint TO220-2
footprint TO-220 (TO, Thru-Hole, Vertical, Heatsink Mounted; 3 In-Line Leads; Pitch 2.54 mm)
footprint TO-251 (立式插件)
footprint TO-252
pins: 1 G, 2 D, 3 S

## MOSFET(P)
designator Q?
场效应管

## MOSFET(P)1
designator Q?
场效应管
footprint Q-TO-220AB
pins: 1 G (in), 2 D (in), 3 S (in)

## MOSFET(P)2
designator Q?
场效应管
footprint TO220-2
footprint TO-220 (TO, Thru-Hole, Vertical, Heatsink Mounted; 3 In-Line Leads; Pitch 2.54 mm)
footprint TO-252
footprint TO-252-W
pins: 1 G, 2 D, 3 S

## MOSFET-N-FDS3672
designator Q?, comment ?
快开MOS管
pins: 1, 2, 3, 4, 5, 6, 7, 8

## MOSFET-N-POWERPAK
designator IC?
场效应管
footprint SO8
footprint IC-SO-8-POWERPAK 1212-8 (VISHAY)
pins: 1 S, 2 S, 3 S, 4 G, 5 D (power), 6 D, 7 D (power), 8 D

## MOSFET-NPN
designator U?
场效应管
pins: 1 S, 2 S, 3 S, 4 G, 5 D, 6 D, 7 D, 8 D

## MOSFET-P-1
designator Q?
场效应管
pins: 1, 2, 3

## MOSFET-SSM6J207FE
designator U?, comment SSM6J207FE
场效应管
footprint IC-ES6 SOT-563 TDK
pins: 1, 2, 3, 4, 5, 6

## MOSFETN-AO8814
designator Q?, comment ?
双N沟道MOS
pins: 1 D1/D2, 2 S1, 3 S2, 4 G1, 5 G2, 6 S2, 7 S1, 8 D1/D2

## NPN
designator Q?
三极管NPN
pins: B (in), C (in), E (in)

## NPN DAR
designator Q?
复合三极管NPN
footprint Q-TO-92BCE
footprint Q-TO-92EBC-分 (8050 8550 3904 3906 9014 9012)
footprint Q-TO-92ECB (2SC2655 A1020 2SC1815)
footprint Q-SOT-23
pins: B (in), C, E

## NPN S
designator Q?
三极管NPN
footprint Q-TO-92BCE
footprint Q-TO-92EBC-分 (8050 8550 3904 3906 9014 9012)
footprint Q-TO-92ECB (2SC2655 A1020 2SC1815)
footprint Q-SOT-23
pins: B (in), C, E

## NPN-C
designator Q?
三极管NPN
footprint Q-TO-92EBC-分 (8050 8550 3904 3906 9014 9012)
footprint Q-TO-92BCE
footprint Q-TO-92ECB (2SC2655 A1020 2SC1815)
footprint Q-SOT-23
pins: B, C, E

## NPN-D
designator Q?
三极管NPN
footprint Q-TO-92EBC-分 (8050 8550 3904 3906 9014 9012)
footprint Q-TO-92BCE
footprint Q-TO-92ECB (2SC2655 A1020 2SC1815)
footprint Q-SOT-23
pins: B, C, E

## NPN-PHOTO
designator Q?
光感三极管
pins: 1 C, 2 E

## NPN-PHOTO1
designator Q?
光感三极管
pins: 1 C, 2 E

## OP-MOC3022
designator U?
光耦
footprint IC-DIP6光耦
pins: 4, 6

## OPT4
designator U?
光耦
pins: 1, 2, 3, 4

## OPTOISO2
designator U?
光耦
footprint IC-DIP8
pins: 2 A, 3 K, 5 E, 6 C, 8 B

## OPTOISO-1
designator U?
光耦
pins: 1 A, 2 K, 3 E, 4 C

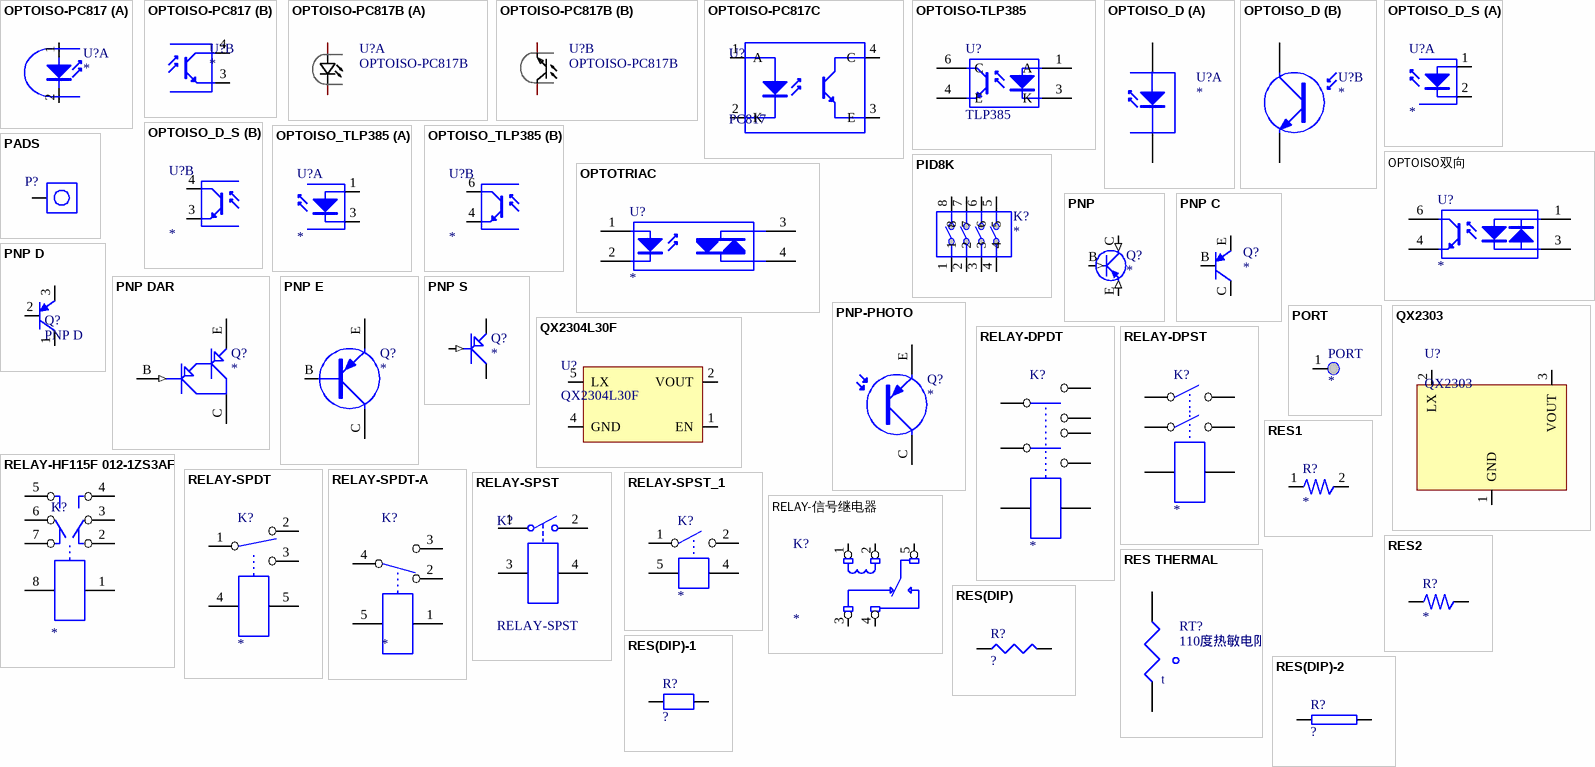
[diagram p9: symbols OPTOISO-PC817 to RES(DIP)-2]

## OPTOISO-PC817
designator U?
光耦
part A pins: 1, 2
part B pins: 3, 4

## OPTOISO-PC817B
designator U?
光耦; Price: 0.225
footprint SO-4
footprint Model Name (Footprint not found)
footprint PC817C-8MM
footprint PC817C
footprint PC817C-9MM
part A pins: 1, 2
part B pins: 3, 4

## OPTOISO-PC817C
designator U?, comment PC817
光耦; 材料名称: PC817C,DIP-4,佰鸿插件IC
footprint PC817C
footprint PC817C-8MM
footprint PC817C-9MM
footprint SO-4
pins: 1 A "Anode", 2 K "Cathode", 3 E "Emitter", 4 C "Collector"

## OPTOISO-TLP385
designator U?, comment TLP385
光耦
footprint IC-SOP4 TLP385 TDK
pins: 1 A, 3 K, 4 E, 6 C

## OPTOISO_D
designator U?
光耦
footprint IC-DIP4/8 (PC817 8mm脚距)
part A pins: 1 A, 2 K
part B pins: 3 E, 4 C

## OPTOISO_D_S
designator U?
光耦
footprint IC-DIP4/8 (PC817 8mm脚距)
part A pins: 1 A, 2 K
part B pins: 3 E, 4 C

## OPTOISO_TLP385
designator U?
光耦
footprint IC-SOP4 TLP385 TDK
part A pins: 1 A, 3 K
part B pins: 4 E, 6 C

## OPTOISO双向
designator U?
光耦
footprint IC-TLP184光耦
pins: 1, 3, 4, 6

## OPTOTRIAC
designator U?
光耦
pins: 1 A, 2 K, 3 A/K, 4 A/K

## PADS
designator P?  (value not drawn)
焊盘
footprint 19AWG
footprint ACL
pins: 1

## PID8K
designator K?
拨码开关
pins: 1, 2, 3, 4, 5, 6, 7, 8

## PNP
designator Q?
三极管PNP
pins: B (in), C (in), E (in)

## PNP C
designator Q?
三极管PNP
footprint Q-TO-92EBC-分 (8050 8550 3904 3906 9014 9012)
footprint Q-TO-92ECB (2SC2655 A1020 2SC1815)
footprint Q-SOT-23
pins: B, C, E

## PNP D
designator Q?
三极管PNP; Published: 8-Jun-2000; LatestRevisionDate: 17-Jul-2002; LatestRevisionNote: Re-released for DXP Platform.; PackageReference: SOT-23B; Publisher: Altium Limited; Code_JEDEC: SOT-23
footprint SOT-23B (SOT-23; 3 Leads; Body 3.0 x 2.6 mm, inc. leads (LxW max))
simulation model PNP
signal-integrity model PNP
pins: 1 C, 2 B, 3 E

## PNP DAR
designator Q?
复合三极管PNP
footprint Q-TO-92EBC-分 (8050 8550 3904 3906 9014 9012)
footprint Q-TO-92ECB (2SC2655 A1020 2SC1815)
footprint Q-SOT-23
pins: B (in), C, E

## PNP E
designator Q?
三极管PNP
footprint Q-TO-92EBC-分 (8050 8550 3904 3906 9014 9012)
footprint Q-TO-92ECB (2SC2655 A1020 2SC1815)
footprint Q-SOT-23
pins: B, C, E

## PNP S
designator Q?
三极管PNP
footprint Q-TO-92EBC-分 (8050 8550 3904 3906 9014 9012)
footprint Q-TO-92ECB (2SC2655 A1020 2SC1815)
footprint Q-SOT-23
pins: B (in), C, E

## PNP-PHOTO
designator Q?
光敏三极管
pins: C, E

## PORT
designator PORT
PORT
pins: 1

## QX2303
designator U?
PFM 升压 DC-DC 变换器
footprint SOT23 (SOT-23; 3 Leads; Body 3.1 x 2.5 mm, inc. leads (LxW max), Alternate Lead Configuration)
pins: 1 GND, 2 LX, 3 VOUT

## QX2304L30F
designator U?
PFM 升压 DC-DC 变换器
footprint SOT23-5 (SOT-23/SC-74A; 5 Leads; Body 3.1 x 3 mm, inc. leads (LxW max))
pins: 1 EN, 2 VOUT, 4 GND, 5 LX

## RELAY-DPDT
designator K?
双刀双掷 继电器
pins: 1, 2, 3, 4, 5, 6, 7, 8

## RELAY-DPST
designator K?
双刀单掷继电器
pins: 1, 2, 3, 4, 5, 6

## RELAY-HF115F 012-1ZS3AF
designator K?
HF115F 012-1ZS3AF
footprint 继电器30A
footprint 继电器1A-13/7.5/10
pins: 1, 2, 3, 4, 5, 6, 7, 8

## RELAY-SPDT
designator K?
单刀双掷继电器
footprint 继电器30A
footprint 继电器1A-13/7.5/10
pins: 1, 2, 3, 4, 5

## RELAY-SPDT-A
designator K?
单刀双掷继电器
footprint 继电器30A
footprint 继电器1A-13/7.5/10
pins: 1, 2, 3, 4, 5

## RELAY-SPST
designator K?
单刀双掷继电器; Published: 24-Mar-1999; LatestRevisionDate: 17-Jul-2002; LatestRevisionNote: Re-released for DXP Platform.; PackageReference: MODULE4; Publisher: Altium Limited
footprint MODULE4 (DIP; 4 Round Pins; Row Space 27.94 mm; Pitch 15.24 mm)
simulation model SPSTRELAY (Spice Subcircuit)
pins: 1, 2, 3, 4

## RELAY-SPST_1
designator K?
单刀单掷继电器
footprint 继电器30A
footprint 继电器1A-13/7.5/10
pins: 1, 2, 4, 5

## RELAY-信号继电器
designator K?
信号继电器
footprint 继电器30A
footprint 继电器1A-13/7.5/10
footprint Relays信号继电器
pins: 1, 2, 3, 4, 5

## RES1
designator R?
电阻
pins: 1, 2

## RES2
designator R?
电阻
pins: 1, 2

## RES THERMAL
designator RT?, comment 110度热敏电阻
温度控制电阻
footprint R-RT (W:5mm)
pins: 1, 2
text: t

## RES(DIP)
designator R?, comment ?
直插电阻
footprint R1/2W-13 (W:13)
footprint R1/4L-3 (3)
footprint R1/4W-10 (W:10mm)
footprint R1/8W-6 (W:6)
footprint R1L-4 (W:4)
footprint R1W-16 (W:16)
footprint R2L-5 (W:5mm)
footprint R2W-20 (W:20mm)
footprint R1/8W-6-J (1%区分)
pins: 1, 2

## RES(DIP)-1
designator R?, comment ?
直插电阻
footprint R1/2W-13 (W:13)
footprint R1/4L-3 (3)
footprint R1/4W-10 (W:10mm)
footprint R1/8W-6 (W:6)
footprint R1L-4 (W:4)
footprint R1W-16 (W:16)
footprint R2L-5 (W:5mm)
footprint R2W-20 (W:20mm)
footprint R1/8W-6-J (1%区分)
pins: 1, 2

## RES(DIP)-2
designator R?, comment ?
直插电阻
footprint R1/2W-13 (W:13)
footprint R1/4L-3 (3)
footprint R1/4W-10 (W:10mm)
footprint R1/8W-6 (W:6)
footprint R1L-4 (W:4)
footprint R1W-16 (W:16)
footprint R2L-5 (W:5mm)
footprint R2W-20 (W:20mm)
footprint R1/8W-6-J (1%区分)
pins: 1, 2

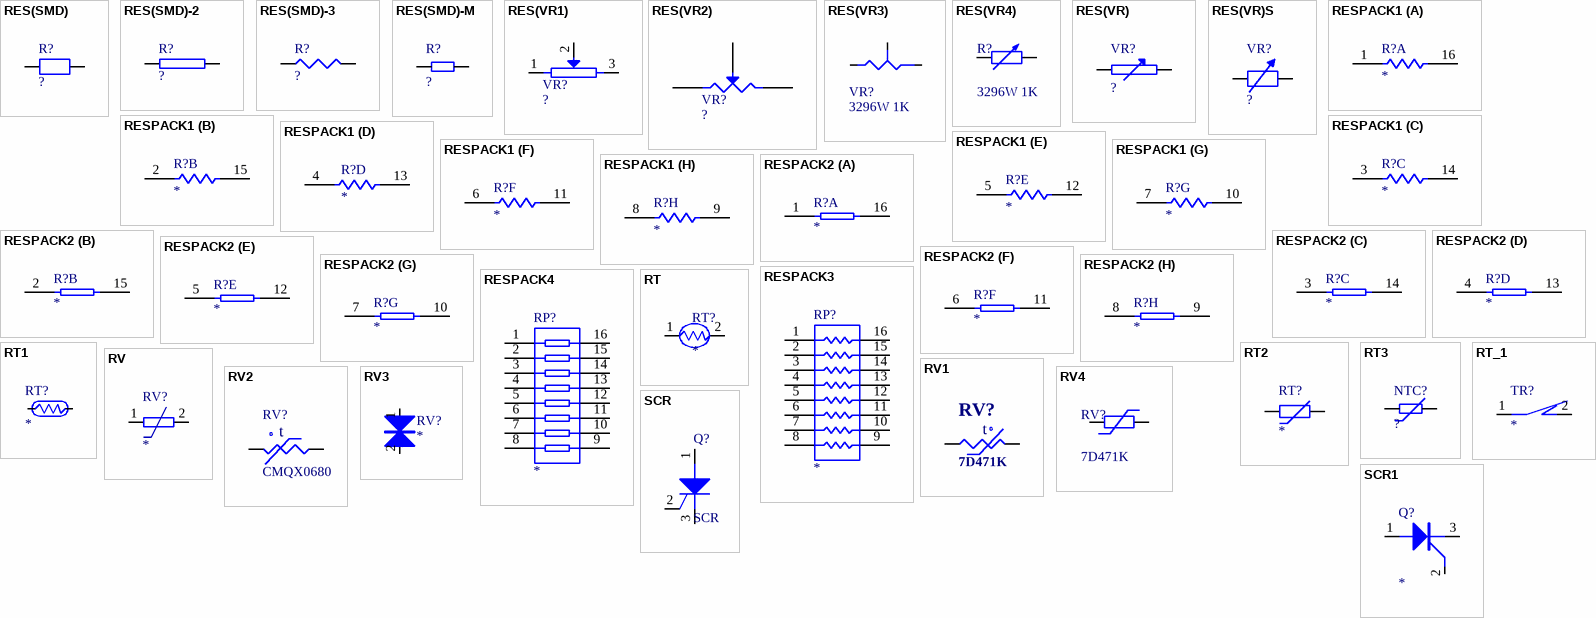
[diagram p10: symbols RES(SMD) to SCR1]

## RES(SMD)
designator R?, comment ?
贴片电阻
footprint R-0805
footprint R-1206
footprint R-1210
footprint R-2010
footprint R-2512
footprint R-0402
footprint R-0603
pins: 1, 2

## RES(SMD)-2
designator R?, comment ?
贴片电阻
footprint R-0805
footprint R-1206
footprint R-1210
footprint R-2010
footprint R-2512
footprint R-0402
footprint R-0603
pins: 1, 2

## RES(SMD)-3
designator R?, comment ?
贴片电阻
footprint R-0805
footprint R-1206
footprint R-1210
footprint R-2010
footprint R-2512
footprint R-0402
pins: 1, 2

## RES(SMD)-M
designator R?, comment ?
贴片电阻
footprint R-0805
footprint R-1206
footprint R-1210
footprint R-2010
footprint R-2512
footprint R-0402
footprint R-0603
pins: 1, 2

## RES(VR1)
designator VR?, comment ?
可调电阻
footprint R-VR3296
footprint R-VR3362
pins: 1, 2 W, 3

## RES(VR2)
designator VR?, comment ?
可调电阻
footprint R-VR3296
footprint R-VR3362
pins: 1, 2, 3 W

## RES(VR3)
designator VR?, comment 3296W 1K
可调电位器; Sim Note: Enter the Resistance value and the set point into parameter fields.; Set Position: 0.5; Published: 24-Mar-1999; LatestRevisionDate: 17-Jul-2002; LatestRevisionNote: Re-released for DXP Platform.; PackageReference: VR3; Publisher: Altium Limited
footprint 3296W
simulation model POT (Potentiometer)
signal-integrity model Res Tap
footprint VR1
footprint VR
pins: 1, 2, 3